# Altium schematic symbol library Altium Library Master.SchLib: 676 symbols (part 3 of 4)
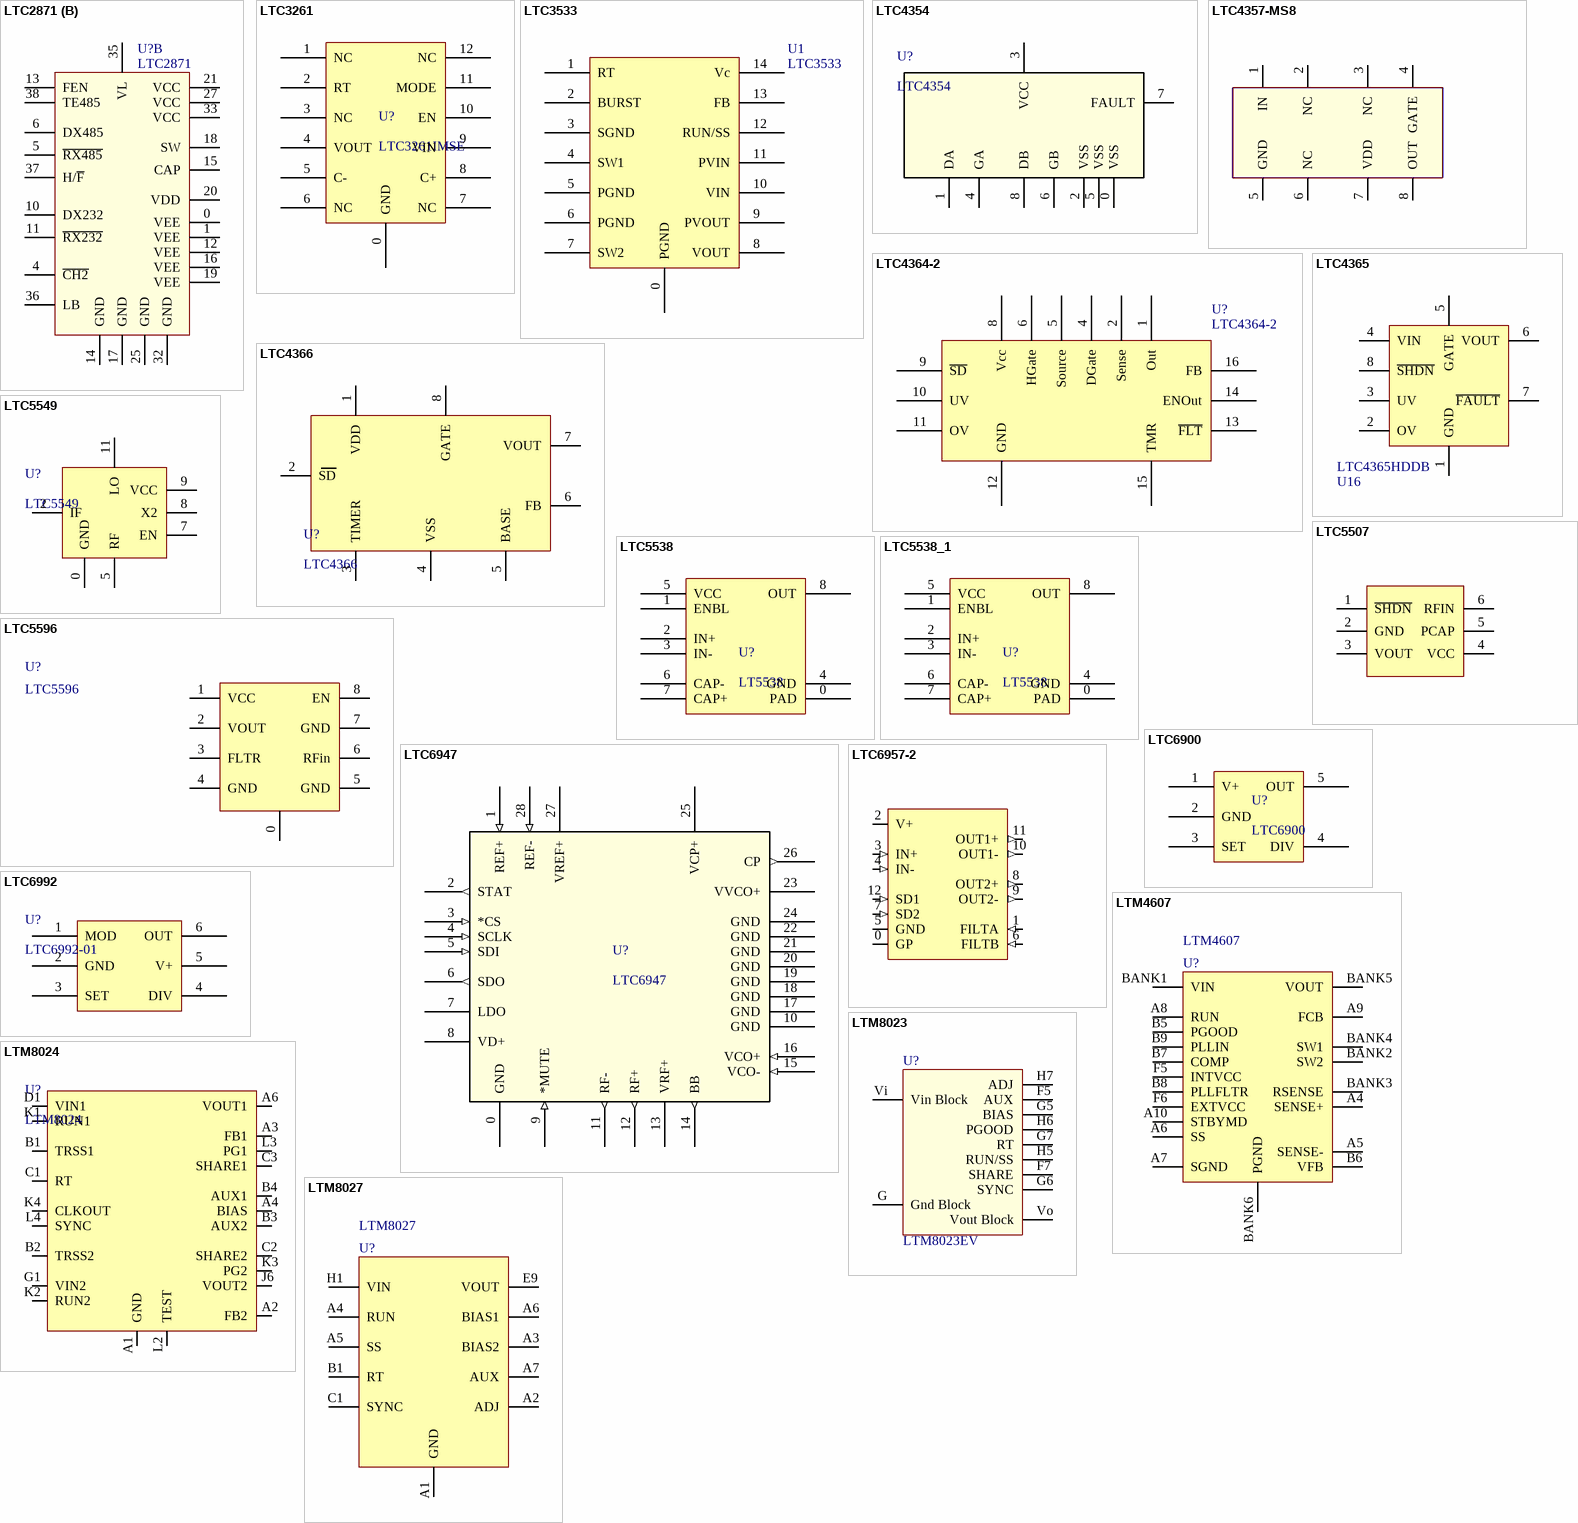
[diagram p33: symbols LTC2871 to LTM8027]

## LTM8024
designator U?
DC/DC Converter, Dual, 3-40V/0.8-8Vadj, 3.5A/ch, uModule, BGA
pins: A1 GND (power), A2 FB2 (power), A3 FB1 (power), A4 BIAS (power), A6 VOUT1 (power), B1 TRSS1 (power), B2 TRSS2 (power), B3 AUX2 (power), B4 AUX1 (power), C1 RT (power), C2 SHARE2 (power), C3 SHARE1 (power), D1 VIN1 (power), G1 VIN2 (power), J6 VOUT2 (power), K1 RUN1 (power), K2 RUN2 (power), K3 PG2 (power), K4 CLKOUT (power), L2 TEST (power), L3 PG1 (power), L4 SYNC (power)

## LTM8027
designator U?
60V, 4A Step-Down uModule Regulator
pins: A1 GND, A2 ADJ, A3 BIAS2, A4 RUN, A5 SS, A6 BIAS1, A7 AUX, B1 RT, C1 SYNC, E9 VOUT, H1 VIN

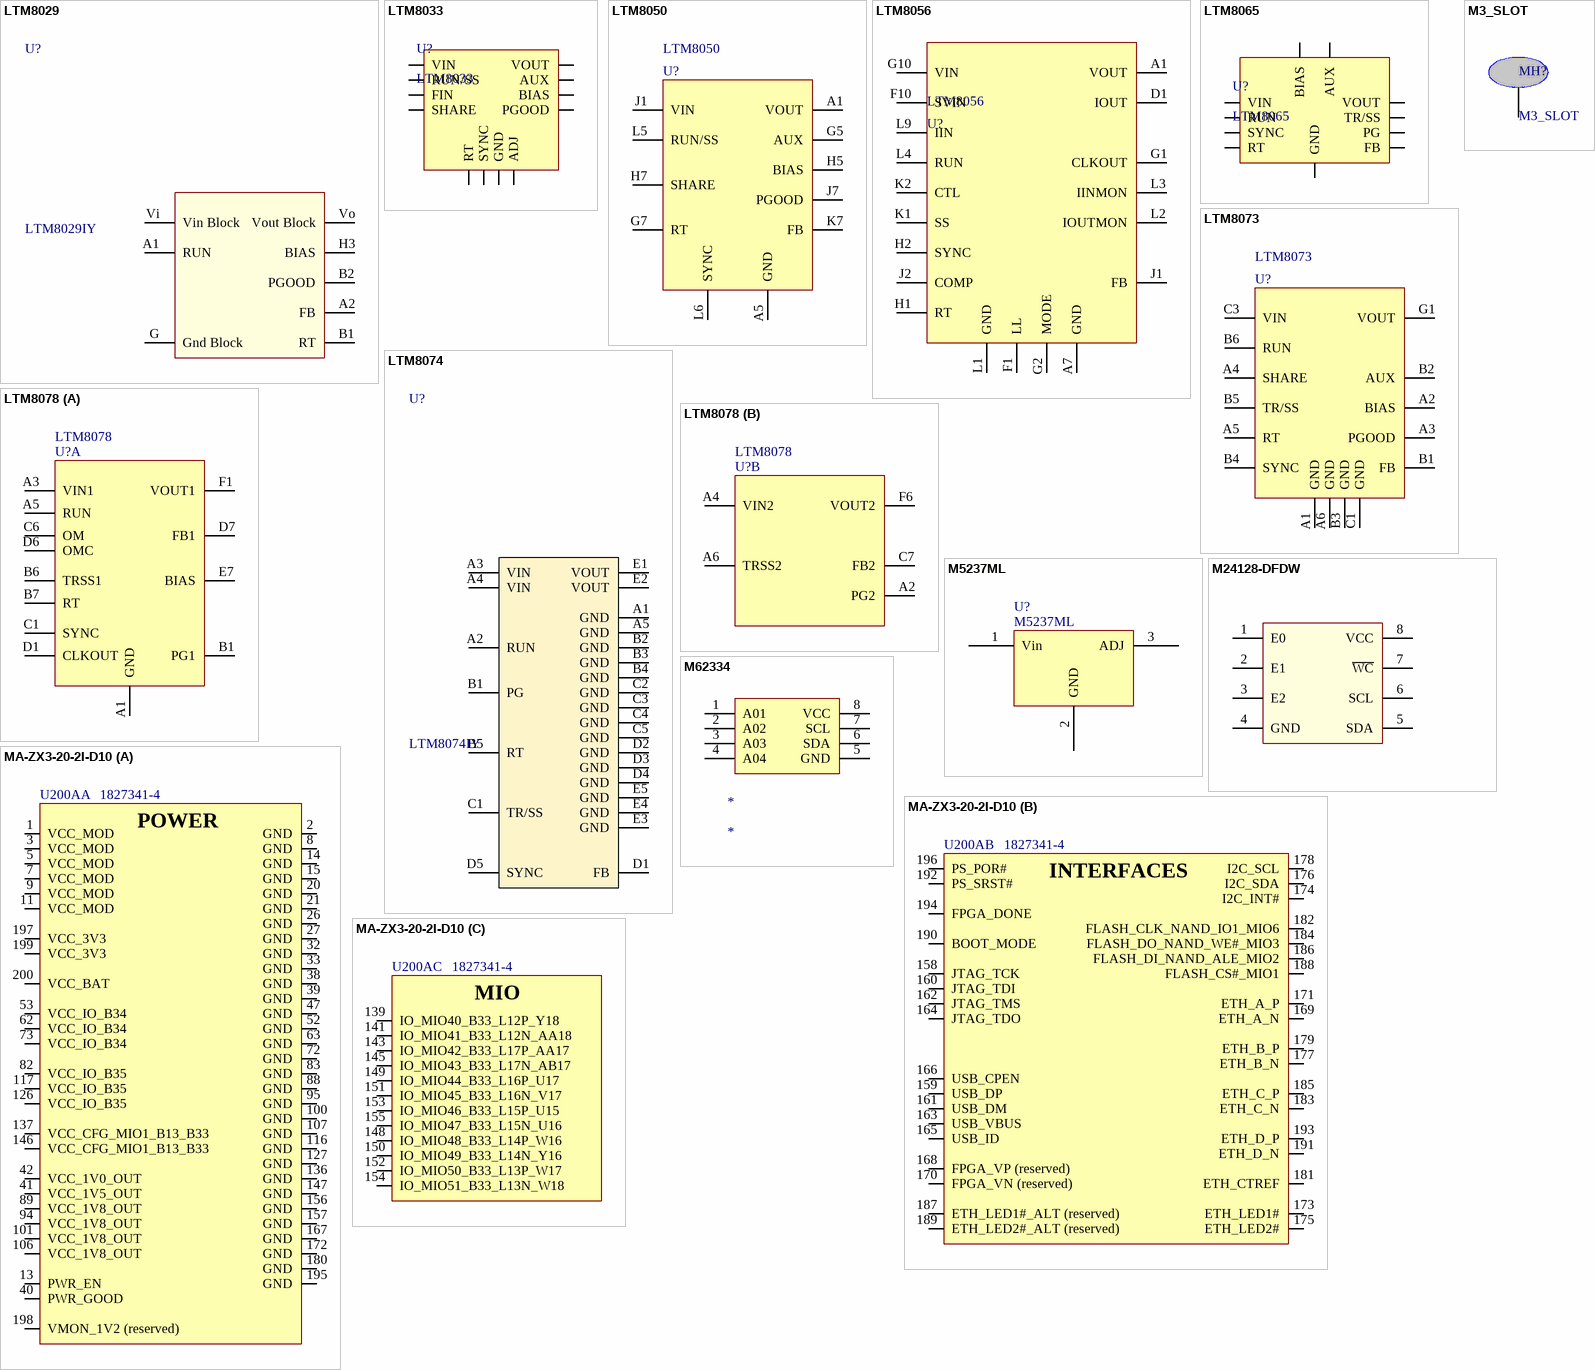
[diagram p18: symbols LTM8029 to MA-ZX3-20-2I-D10]

## LTM8029
designator U?, comment LTM8029IY
Switching Regulator
pins: A1 RUN, A2 FB, B1 RT, B2 PGOOD, G Gnd Block, H3 BIAS, Vi Vin Block, Vo Vout Block

## LTM8033
designator U?
Switching Regulator, Adj, 3A Buck, 36V input; Part Number: 52-8033-01
footprint BGA_LTM8033
pins: A1 VOUT (power), A2 VOUT (power), A3 VOUT (power), A4 GND (power), A5 GND (power), A6 SHARE, A7 ADJ, A8 GND (power), B1 VOUT (power), B2 VOUT (power), B3 VOUT (power), B5 GND (power), B6 RT, B7 PGOOD, B8 SYNC (power), C1 VOUT (power), C2 VOUT (power), C3 VOUT (power), C4 GND (power), C5 GND (power), C6 GND (power), C7 GND (power), C8 GND (power), D1 VOUT (power), D2 VOUT (power), D3 VOUT (power), D4 GND (power), D5 GND (power), D6 GND (power), D7 GND (power), D8 GND (power), E1 GND (power), E2 GND (power), E3 GND (power), E4 GND (power), E5 GND (power), E6 GND (power), E7 GND (power), E8 GND (power), F1 GND (power), F2 GND (power), F3 GND (power), F4 GND (power), F5 GND (power), F6 GND (power), F7 GND (power), F8 GND (power), G1 GND (power), G2 GND (power), G3 AUX, G4 BIAS, G5 GND (power), G6 GND (power), G7 GND (power), G8 RUN/SS, H5 GND (power), H6 GND (power), J1 VIN (power), J2 VIN (power), J3 VIN (power), J5 GND (power), J6 GND (power), J8 FIN (power), K1 VIN (power), K2 VIN (power), K3 VIN (power), K5 GND (power), K6 GND (power), K8 FIN (power), L1 VIN (power), L2 VIN (power), L3 VIN (power), L5 GND (power), L6 GND (power), L8 FIN (power)

## LTM8050
designator U?
58V, 2A Step-Down uModule Regulator
pins: A1 VOUT, A5 GND, G5 AUX, G7 RT, H5 BIAS, H7 SHARE, J1 VIN, J7 PGOOD, K7 FB, L5 RUN/SS, L6 SYNC

## LTM8056
designator U?
58V, 4A Buck-Boost uModule Regulator
pins: A1 VOUT, A7 GND, D1 IOUT, F1 LL "GND", F10 SVIN, G1 CLKOUT, G2 MODE "GND", G10 VIN, H1 RT, H2 SYNC, J1 FB, J2 COMP, K1 SS, K2 CTL, L1 GND, L2 IOUTMON, L3 IINMON, L4 RUN, L9 IIN

## LTM8065
designator U?
Switching Regulator, Adj, 2.5A Buck, 40V input; Part Number: 52-8033-01
footprint BGA_LTM8065
pins: A1 GND (power), A2 BIAS, A3 PG, A4 GND (power), A5 RT, A6 GND (power), B1 FB, B2 AUX, B3 GND (power), B4 SYNC, B5 TR/SS, B6 RUN, C1 GND (power), C2 GND (power), C3 VIN (power), C4 VIN (power), C5 VIN (power), C6 VIN (power), D1 GND (power), D2 GND (power), D3 GND (power), D4 GND (power), D5 GND (power), D6 GND (power), E1 GND (power), E2 GND (power), E3 GND (power), E4 GND (power), E5 GND (power), E6 GND (power), F1 VOUT (power), F2 VOUT (power), F3 VOUT (power), F4 VOUT (power), F5 VOUT (power), F6 VOUT (power)

## LTM8073
designator U?
58V, 3A Step-Down uModule Regulator
pins: A1 GND, A2 BIAS, A3 PGOOD, A4 SHARE, A5 RT, A6 GND, B1 FB, B2 AUX, B3 GND, B4 SYNC, B5 TR/SS, B6 RUN, C1 GND, C3 VIN, G1 VOUT

## LTM8074
designator U?, comment LTM8074IY
Step-down SMPS, Vin 3.2-40V, Vout 0.8-12V,; Part Number: 52-8074-01; MPN: LTM8074IY#PBF
pins: A1 GND, A2 RUN, A3 VIN (power), A4 VIN (power), A5 GND, B1 PG (oc), B2 GND, B3 GND, B4 GND, B5 RT, C1 TR/SS, C2 GND, C3 GND, C4 GND, C5 GND, D1 FB, D2 GND, D3 GND, D4 GND, D5 SYNC, E1 VOUT (power), E2 VOUT (power), E3 GND, E4 GND, E5 GND

## LTM8078
designator U?
DC/DC Converter, Dual, 3-40V/0.8-10V, 1.4A/Ch
part A pins: A1 GND, A3 VIN1, A5 RUN, A7 GND, B1 PG1, B2 GND, B3 GND, B4 GND, B5 GND, B6 TRSS1, B7 RT, C1 SYNC, C2 GND, C3 GND, C4 GND, C5 GND, C6 OM, D1 CLKOUT, D2 GND, D3 GND, D4 GND, D5 GND, D6 OMC, D7 FB1, E1 GND, E2 GND, E3 GND, E4 GND, E5 GND, E6 GND, E7 BIAS, F1 VOUT1, F2 VOUT1, F3 GND, F4 GND, F5 GND, G1 VOUT1, G2 VOUT1, G3 GND, G4 GND, G5 GND
part B pins: A2 PG2, A4 VIN2, A6 TRSS2, C7 FB2, F6 VOUT2, F7 VOUT2, G6 VOUT2, G7 VOUT2

## M3_SLOT
designator MH?
footprint M3_SLOT (M3 Mounting Screw Hole with Slot for Compression Stop)
pins: 1 (power)

## M5237ML
designator U?
Linear Regulator
pins: 1 Vin, 2 GND, 3 ADJ

## M24128-DFDW
designator U?
EEPROM, 128kx64, I2C, 1.7-5.5V, TSSOP-8; Part Number: 20-H10-04
footprint TSSOP-8
pins: 1 E0, 2 E1, 3 E2, 4 GND, 5 SDA, 6 SCL, 7 ~{WC}, 8 VCC

## M62334
designator *
pins: 1 A01, 2 A02, 3 A03, 4 A04, 5 GND (power), 6 SDA (power), 7 SCL (power), 8 VCC (power)

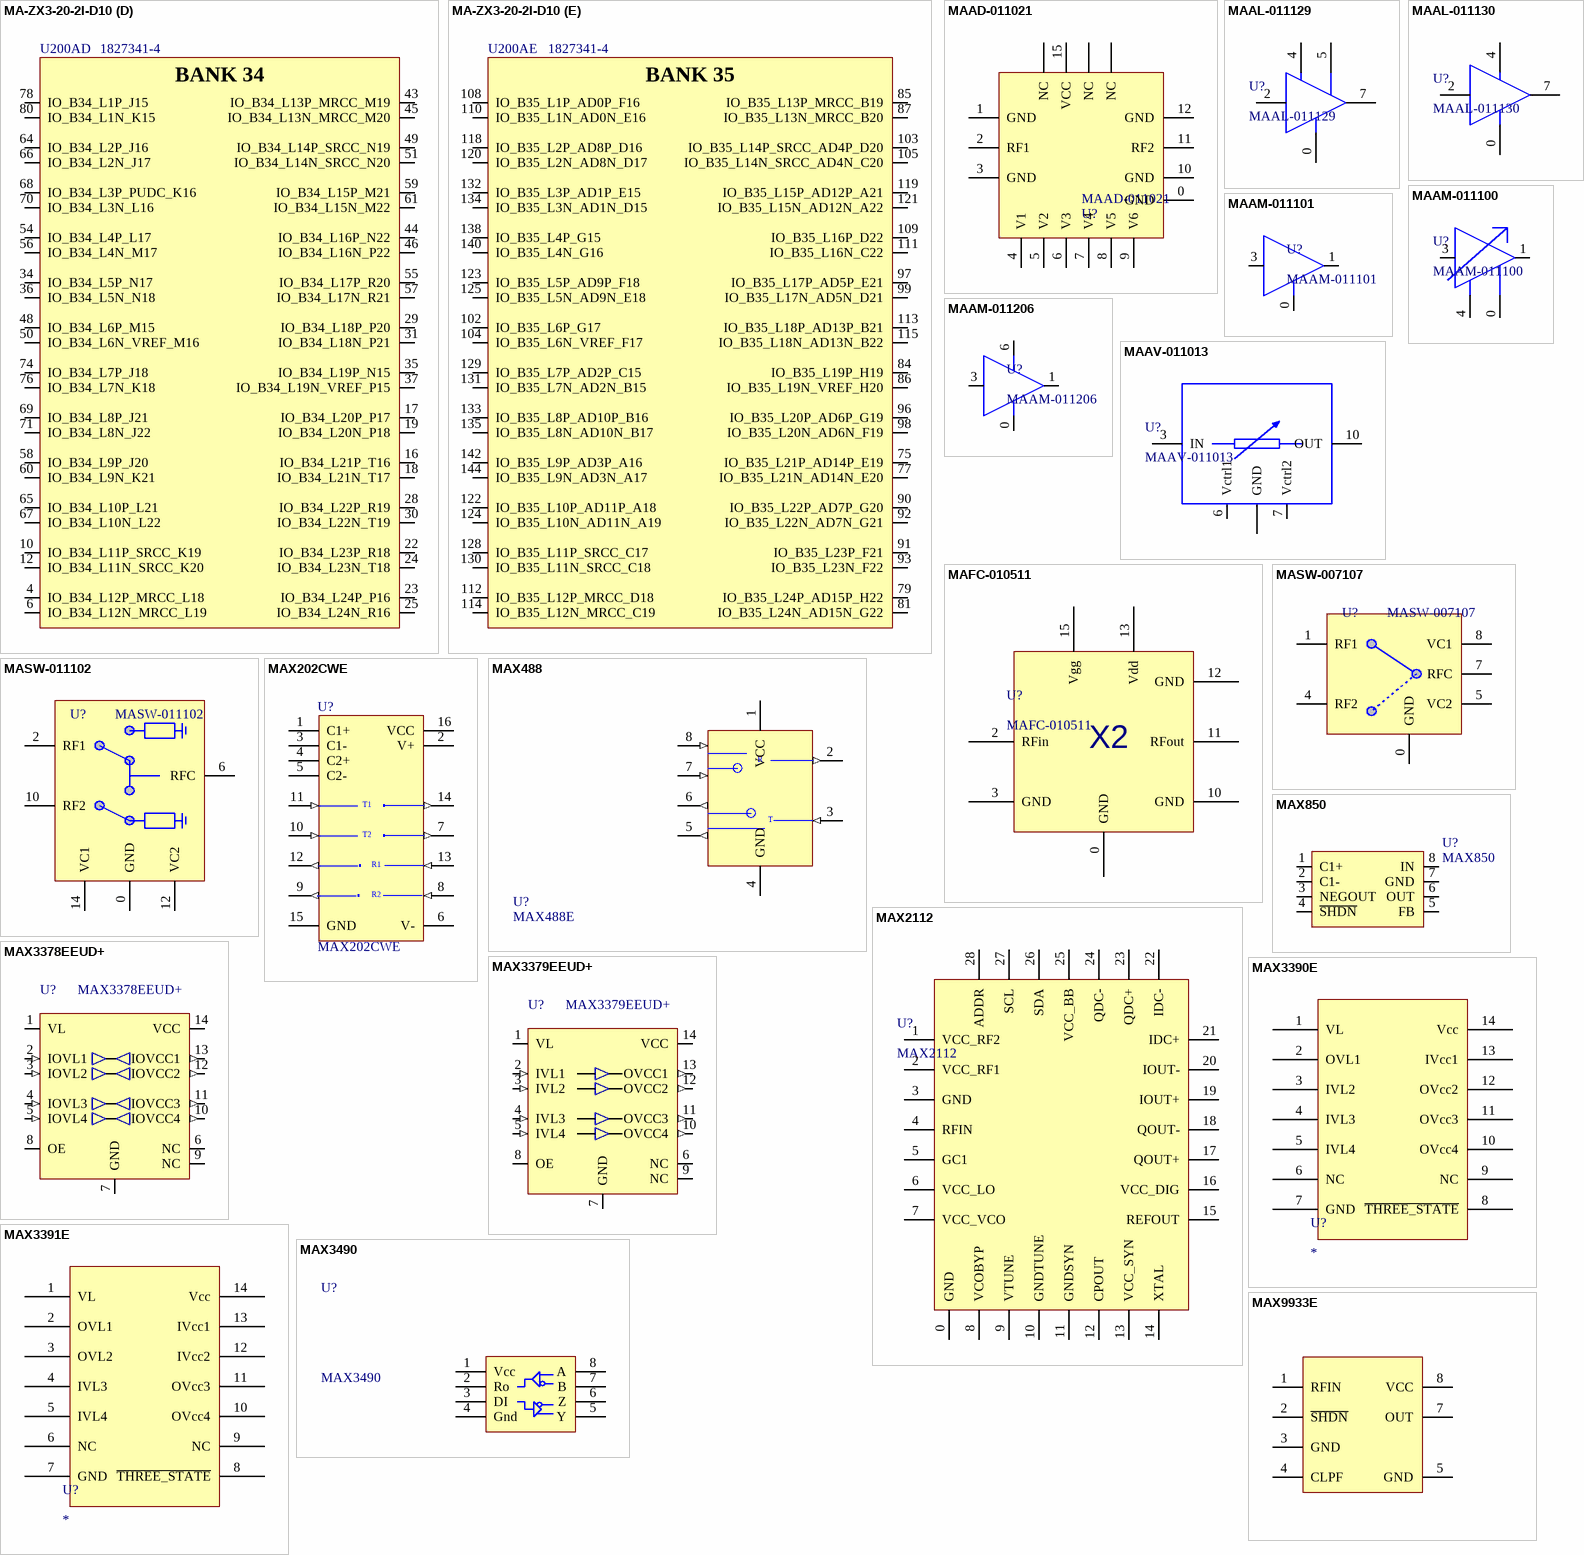
[diagram p19: symbols MA-ZX3-20-2I-D10 to MAX9933E]

## MA-ZX3-20-2I-D10
designator U200A, comment 1827341-4
Mars ZX3 Zynq-7020 Module; Part Number: 35-0206
footprint 1827341-4
part A pins: 1 VCC_MOD (power), 2 GND (power), 3 VCC_MOD (power), 5 VCC_MOD (power), 7 VCC_MOD (power), 8 GND (power), 9 VCC_MOD (power), 11 VCC_MOD (power), 13 PWR_EN, 14 GND (power), 15 GND (power), 20 GND (power), 21 GND (power), 26 GND (power), 27 GND (power), 32 GND (power), 33 GND (power), 38 GND (power), 39 GND (power), 40 PWR_GOOD, 41 VCC_1V5_OUT (power), 42 VCC_1V0_OUT (power), 47 GND (power), 52 GND (power), 53 VCC_IO_B34 (power), 62 VCC_IO_B34 (power), 63 GND (power), 72 GND (power), 73 VCC_IO_B34 (power), 82 VCC_IO_B35 (power), 83 GND (power), 88 GND (power), 89 VCC_1V8_OUT (power), 94 VCC_1V8_OUT (power), 95 GND (power), 100 GND (power), 101 VCC_1V8_OUT (power), 106 VCC_1V8_OUT (power), 107 GND (power), 116 GND (power), 117 VCC_IO_B35 (power), 126 VCC_IO_B35 (power), 127 GND (power), 136 GND (power), 137 VCC_CFG_MIO1_B13_B33 (power), 146 VCC_CFG_MIO1_B13_B33 (power), 147 GND (power), 156 GND (power), 157 GND (power), 167 GND (power), 172 GND (power), 180 GND (power), 195 GND (power), 197 VCC_3V3 (power), 198 VMON_1V2 (reserved), 199 VCC_3V3 (power), 200 VCC_BAT (power)
part B pins: 158 JTAG_TCK, 159 USB_DP, 160 JTAG_TDI, 161 USB_DM, 162 JTAG_TMS, 163 USB_VBUS, 164 JTAG_TDO, 165 USB_ID, 166 USB_CPEN, 168 FPGA_VP (reserved), 169 ETH_A_N, 170 FPGA_VN (reserved), 171 ETH_A_P, 173 ETH_LED1#, 174 I2C_INT#, 175 ETH_LED2#, 176 I2C_SDA, 177 ETH_B_N, 178 I2C_SCL, 179 ETH_B_P, 181 ETH_CTREF, 182 FLASH_CLK_NAND_IO1_MIO6, 183 ETH_C_N, 184 FLASH_DO_NAND_WE#_MIO3, 185 ETH_C_P, 186 FLASH_DI_NAND_ALE_MIO2, 187 ETH_LED1#_ALT (reserved), 188 FLASH_CS#_MIO1, 189 ETH_LED2#_ALT (reserved), 190 BOOT_MODE, 191 ETH_D_N, 192 PS_SRST#, 193 ETH_D_P, 194 FPGA_DONE, 196 PS_POR#
part C pins: 139 IO_MIO40_B33_L12P_Y18, 141 IO_MIO41_B33_L12N_AA18, 143 IO_MIO42_B33_L17P_AA17, 145 IO_MIO43_B33_L17N_AB17, 148 IO_MIO48_B33_L14P_W16, 149 IO_MIO44_B33_L16P_U17, 150 IO_MIO49_B33_L14N_Y16, 151 IO_MIO45_B33_L16N_V17, 152 IO_MIO50_B33_L13P_W17, 153 IO_MIO46_B33_L15P_U15, 154 IO_MIO51_B33_L13N_W18, 155 IO_MIO47_B33_L15N_U16
part D pins: 4 IO_B34_L12P_MRCC_L18, 6 IO_B34_L12N_MRCC_L19, 10 IO_B34_L11P_SRCC_K19, 12 IO_B34_L11N_SRCC_K20, 16 IO_B34_L21P_T16, 17 IO_B34_L20P_P17, 18 IO_B34_L21N_T17, 19 IO_B34_L20N_P18, 22 IO_B34_L23P_R18, 23 IO_B34_L24P_P16, 24 IO_B34_L23N_T18, 25 IO_B34_L24N_R16, 28 IO_B34_L22P_R19, 29 IO_B34_L18P_P20, 30 IO_B34_L22N_T19, 31 IO_B34_L18N_P21, 34 IO_B34_L5P_N17, 35 IO_B34_L19P_N15, 36 IO_B34_L5N_N18, 37 IO_B34_L19N_VREF_P15, 43 IO_B34_L13P_MRCC_M19, 44 IO_B34_L16P_N22, 45 IO_B34_L13N_MRCC_M20, 46 IO_B34_L16N_P22, 48 IO_B34_L6P_M15, 49 IO_B34_L14P_SRCC_N19, 50 IO_B34_L6N_VREF_M16, 51 IO_B34_L14N_SRCC_N20, 54 IO_B34_L4P_L17, 55 IO_B34_L17P_R20, 56 IO_B34_L4N_M17, 57 IO_B34_L17N_R21, 58 IO_B34_L9P_J20, 59 IO_B34_L15P_M21, 60 IO_B34_L9N_K21, 61 IO_B34_L15N_M22, 64 IO_B34_L2P_J16, 65 IO_B34_L10P_L21, 66 IO_B34_L2N_J17, 67 IO_B34_L10N_L22, 68 IO_B34_L3P_PUDC_K16, 69 IO_B34_L8P_J21, 70 IO_B34_L3N_L16, 71 IO_B34_L8N_J22, 74 IO_B34_L7P_J18, 76 IO_B34_L7N_K18, 78 IO_B34_L1P_J15, 80 IO_B34_L1N_K15
part E pins: 75 IO_B35_L21P_AD14P_E19, 77 IO_B35_L21N_AD14N_E20, 79 IO_B35_L24P_AD15P_H22, 81 IO_B35_L24N_AD15N_G22, 84 IO_B35_L19P_H19, 85 IO_B35_L13P_MRCC_B19, 86 IO_B35_L19N_VREF_H20, 87 IO_B35_L13N_MRCC_B20, 90 IO_B35_L22P_AD7P_G20, 91 IO_B35_L23P_F21, 92 IO_B35_L22N_AD7N_G21, 93 IO_B35_L23N_F22, 96 IO_B35_L20P_AD6P_G19, 97 IO_B35_L17P_AD5P_E21, 98 IO_B35_L20N_AD6N_F19, 99 IO_B35_L17N_AD5N_D21, 102 IO_B35_L6P_G17, 103 IO_B35_L14P_SRCC_AD4P_D20, 104 IO_B35_L6N_VREF_F17, 105 IO_B35_L14N_SRCC_AD4N_C20, 108 IO_B35_L1P_AD0P_F16, 109 IO_B35_L16P_D22, 110 IO_B35_L1N_AD0N_E16, 111 IO_B35_L16N_C22, 112 IO_B35_L12P_MRCC_D18, 113 IO_B35_L18P_AD13P_B21, 114 IO_B35_L12N_MRCC_C19, 115 IO_B35_L18N_AD13N_B22, 118 IO_B35_L2P_AD8P_D16, 119 IO_B35_L15P_AD12P_A21, 120 IO_B35_L2N_AD8N_D17, 121 IO_B35_L15N_AD12N_A22, 122 IO_B35_L10P_AD11P_A18, 123 IO_B35_L5P_AD9P_F18, 124 IO_B35_L10N_AD11N_A19, 125 IO_B35_L5N_AD9N_E18, 128 IO_B35_L11P_SRCC_C17, 129 IO_B35_L7P_AD2P_C15, 130 IO_B35_L11N_SRCC_C18, 131 IO_B35_L7N_AD2N_B15, 132 IO_B35_L3P_AD1P_E15, 133 IO_B35_L8P_AD10P_B16, 134 IO_B35_L3N_AD1N_D15, 135 IO_B35_L8N_AD10N_B17, 138 IO_B35_L4P_G15, 140 IO_B35_L4N_G16, 142 IO_B35_L9P_AD3P_A16, 144 IO_B35_L9N_AD3N_A17
part A text: POWER
part B text: INTERFACES
part C text: MIO
part D text: BANK 34
part E text: BANK 35

## MAAD-011021
designator U?
0.5 dB LSB GaAs MMIC 6-BIT DIGITAL, DC - 30 GHz
pins: 0 GND, 1 GND "VDD", 2 RF1, 3 GND, 4 V1, 5 V2, 6 V3, 7 V4, 8 V5, 9 V6, 10 GND, 11 RF2, 12 GND, 13 NC, 14 NC, 15 VCC, 16 NC

## MAAL-011129
designator U?
MMIC, LNA 18-31.5 GHz
pins: 0 GND (power), 1 GND (power) hidden to GND, 2 RFin, 3 GND (power) hidden to GND, 4 Bias (power), 5 VDD (power), 6 GND (power) hidden to GND, 7 RFout, 8 GND (power) hidden to GND

## MAAL-011130
designator U?
MMIC, LNA 2-18GHz
pins: 0 GND (power), 1 GND (power) hidden to GND, 2 RFin, 3 GND (power) hidden to GND, 4 Bias (power), 5 GND hidden to GND, 6 GND (power) hidden to GND, 7 RFout, 8 GND (power) hidden to GND

## MAAM-011100
designator U?
0.4-20GHz VGAmplifier
pins: 0 GND, 1 RFout, 2 NC hidden to GND, 3 RFin, 4 Vc, 5 NC hidden to GND, 6 NC hidden to GND

## MAAM-011101
designator U?
4-20GHz Amplifier
pins: 0 GND, 1 RFout, 2 NC hidden to GND, 3 RFin, 4 NC hidden to GND, 5 NC hidden to GND, 6 NC hidden to GND

## MAAM-011206
designator U?
DC-15GHz Amplifier
pins: 0 GND, 1 RFout, 2 NC hidden to GND, 3 RFin, 4 NC hidden to GND, 5 NC hidden to GND, 6 VB

## MAAV-011013
designator U?
VARIABLE VOLTAGE ATTENUATOR 5-45 GHz
pins: 0 GND, 1 NC hidden to GND, 2 GND hidden to GND, 3 IN, 4 GND hidden to GND, 5 NC hidden to GND, 6 Vctrl1, 7 Vctrl2, 8 NC hidden to GND, 9 GND hidden to GND, 10 OUT, 11 GND hidden to GND, 12 NC hidden to GND, 13 NC hidden to GND, 14 NC hidden to GND, 15 NC hidden to GND, 16 NC hidden to GND

## MAFC-010511
designator U?
Frequency Doubler, 16 - 24 GHz Output
pins: 0 GND, 1 NC hidden to GND, 2 RFin, 3 GND, 4 NC hidden to GND, 5 NC hidden to GND, 6 NC hidden to GND, 7 NC hidden to GND, 8 NC hidden to GND, 9 NC hidden to GND, 10 GND, 11 RFout, 12 GND, 13 Vdd, 14 NC hidden to GND, 15 Vgg, 16 NC hidden to GND
text: X2

## MASW-007107
designator U?
RF Switch, SPDT, DC - 8.0 GHz
footprint PDFN-8LD_2x2
footprint PDFN-8LD
pins: 0 GND, 1 RF1, 2 NC hidden to GND, 3 NC hidden to GND, 4 RF2, 5 VC2, 6 NC hidden to GND, 7 RFC, 8 VC1

## MASW-011102
designator U?
RF Switch, SPDT, DC - 30 GHz
pins: 0 GND, 1 GND, 2 RF1, 3 GND, 4 GND, 5 GND, 6 RFC, 7 GND, 8 GND, 9 GND, 10 RF2, 11 GND, 12 VC2, 13 GND, 14 VC1

## MAX202CWE
designator U?
+5V RS-232 Transceiver with 0.1µF External Capacitor; Published: 16-Jan-2001; LatestRevisionDate: 13-Apr-2006; LatestRevisionNote: IPC-7351 Footprint Added.; DatasheetVersion: Dec-1996; PackageReference: WSO16; Publisher: Altium Limited; PackageDescription: 16-Pin Small Outline Integrated Circuit 1.27 mm Pitch; Code_JEDEC: MS-013-AA; Code_IPC: SOIC127P1030-16; ComponentLink1Description: Manufacturer Link; ComponentLink1URL: http://www.maxim-ic.com/; ComponentLink2Description: Datasheet; ComponentLink2URL: http://pdfserv.maxim-ic.com/en/ds/MAX200-MAX213.pdf
pins: 1 C1+, 2 V+ (power), 3 C1-, 4 C2+, 5 C2-, 6 V- (power), 7 T2OUT (out), 8 R2IN (in), 9 R2OUT (out), 10 T2IN (in), 11 T1IN (in), 12 R1OUT (out), 13 R1IN (in), 14 T1OUT (out), 15 GND (power), 16 VCC (power)
text: T1; T2; R1; R2

## MAX488
designator U?, comment MAX488E
RS485/RS422 Transceiver
pins: 1 VCC (power), 2 RO (out), 3 DI (in), 4 GND (power), 5 Y (out), 6 Z (out), 7 B (in), 8 A (in)
text: R; T

## MAX850
designator U?
Low-Noise, Regulated, Negative  Charge-Pump Power Supplies for GaAsFET Bias
pins: 1 C1+, 2 C1-, 3 NEGOUT, 4 ~{SHDN}, 5 FB, 6 OUT, 7 GND, 8 IN

## MAX2112
designator U?
Tuner, 925-2175MHz, Dir Conv, DVB-S2, -40/+85C, TQFN28
pins: 0 GND, 1 VCC_RF2, 2 VCC_RF1, 3 GND, 4 RFIN, 5 GC1, 6 VCC_LO, 7 VCC_VCO, 8 VCOBYP, 9 VTUNE, 10 GNDTUNE, 11 GNDSYN, 12 CPOUT, 13 VCC_SYN, 14 XTAL, 15 REFOUT, 16 VCC_DIG, 17 QOUT+, 18 QOUT-, 19 IOUT+, 20 IOUT-, 21 IDC+, 22 IDC-, 23 QDC+, 24 QDC-, 25 VCC_BB, 26 SDA, 27 SCL, 28 ADDR

## MAX3378EEUD+
designator U?
Level Translator/Buffer, Bidirectional, Quad Tx, -40/+85C, TSSOP-14
pins: 1 VL (power), 2 IOVL1 (in), 3 IOVL2 (in), 4 IOVL3 (in), 5 IOVL4 (in), 6 NC, 7 GND (power), 8 OE, 9 NC, 10 IOVCC4 (out), 11 IOVCC3 (out), 12 IOVCC2 (out), 13 IOVCC1 (out), 14 VCC (power)

## MAX3379EEUD+
designator U?
4-bit Voltage Translator (VL to VH)
pins: 1 VL (power), 2 IVL1 (in), 3 IVL2 (in), 4 IVL3 (in), 5 IVL4 (in), 6 NC, 7 GND (power), 8 OE, 9 NC, 10 OVCC4 (out), 11 OVCC3 (out), 12 OVCC2 (out), 13 OVCC1 (out), 14 VCC (power)

## MAX3390E
designator U?
Level Translator/Buffer, Single Rx Dual Tx, -40/+85C, TSSOP-14
pins: 1 VL, 2 OVL1, 3 IVL2, 4 IVL3, 5 IVL4, 6 NC, 7 GND, 8 ~{THREE_STATE}, 9 NC, 10 OVcc4, 11 OVcc3, 12 OVcc2, 13 IVcc1, 14 Vcc

## MAX3391E
designator U?
Level Translator/Buffer, Low Phase Noise, Dual, DFN
pins: 1 VL, 2 OVL1, 3 OVL2, 4 IVL3, 5 IVL4, 6 NC, 7 GND, 8 ~{THREE_STATE}, 9 NC, 10 OVcc4, 11 OVcc3, 12 IVcc2, 13 IVcc1, 14 Vcc

## MAX3490
designator U?
RS422/485 Transceiver 3V3 SO8; Value: MAX3490
pins: 1 Vcc, 2 Ro, 3 DI, 4 Gnd, 5 Y, 6 Z, 7 B, 8 A

## MAX9933E
designator U?
RF Detector, 2MHz-1.6GHz, -45dBm to +0dBm
pins: 1 RFIN, 2 ~{SHDN}, 3 GND, 4 CLPF, 5 GND, 7 OUT, 8 VCC

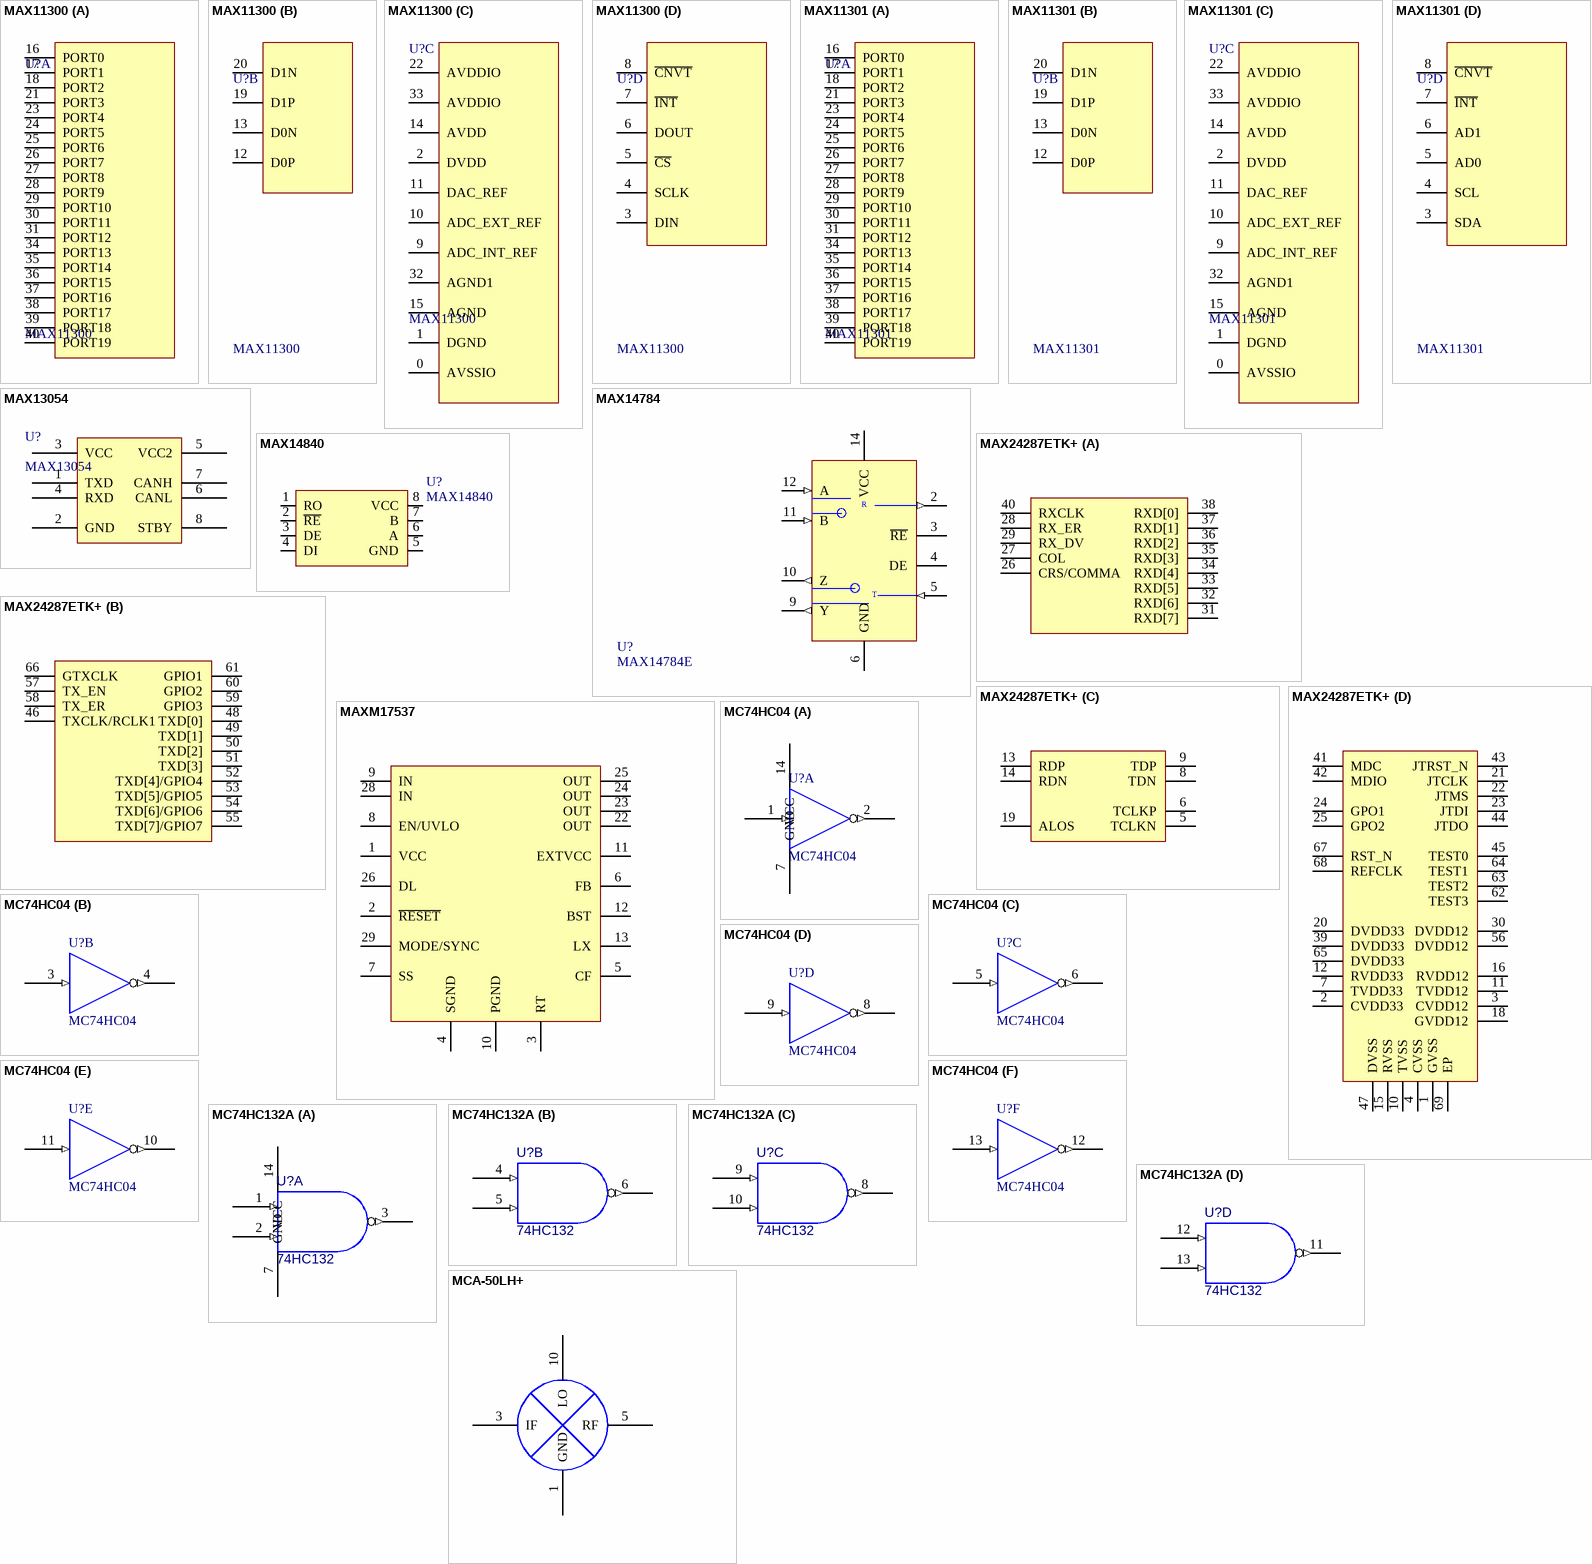
[diagram p20: symbols MAX11300 to MCA-50LH+]

## MAX11300
designator U?
20 PORT A/D, D/A, GPIO, SPI
part A pins: 16 PORT0 "GPIO", 17 PORT1 "GPIO", 18 PORT2 "GPIO", 21 PORT3 "GPIO", 23 PORT4 "GPIO", 24 PORT5 "GPIO", 25 PORT6 "GPIO", 26 PORT7 "GPIO", 27 PORT8 "GPIO", 28 PORT9 "GPIO", 29 PORT10 "GPIO", 30 PORT11 "GPIO", 31 PORT12 "GPIO", 34 PORT13 "GPIO", 35 PORT14 "GPIO", 36 PORT15 "GPIO", 37 PORT16 "GPIO", 38 PORT17 "GPIO", 39 PORT18 "GPIO", 40 PORT19 "GPIO"
part B pins: 12 D0P, 13 D0N, 19 D1P, 20 D1N
part C pins: 0 AVSSIO, 1 DGND, 2 DVDD, 9 ADC_INT_REF, 10 ADC_EXT_REF, 11 DAC_REF, 14 AVDD, 15 AGND, 22 AVDDIO, 32 AGND1, 33 AVDDIO
part D pins: 3 DIN, 4 SCLK, 5 ~{CS}, 6 DOUT, 7 ~{INT}, 8 ~{CNVT}

## MAX11301
designator U?
20 PORT A/D, D/A, GPIO, I2C
part A pins: 16 PORT0 "GPIO", 17 PORT1 "GPIO", 18 PORT2 "GPIO", 21 PORT3 "GPIO", 23 PORT4 "GPIO", 24 PORT5 "GPIO", 25 PORT6 "GPIO", 26 PORT7 "GPIO", 27 PORT8 "GPIO", 28 PORT9 "GPIO", 29 PORT10 "GPIO", 30 PORT11 "GPIO", 31 PORT12 "GPIO", 34 PORT13 "GPIO", 35 PORT14 "GPIO", 36 PORT15 "GPIO", 37 PORT16 "GPIO", 38 PORT17 "GPIO", 39 PORT18 "GPIO", 40 PORT19 "GPIO"
part B pins: 12 D0P, 13 D0N, 19 D1P, 20 D1N
part C pins: 0 AVSSIO, 1 DGND, 2 DVDD, 9 ADC_INT_REF, 10 ADC_EXT_REF, 11 DAC_REF, 14 AVDD, 15 AGND, 22 AVDDIO, 32 AGND1, 33 AVDDIO
part D pins: 3 SDA, 4 SCL, 5 AD0, 6 AD1, 7 ~{INT}, 8 ~{CNVT}

## MAX13054
designator U?
Transceiver, CAN Bus, Protected, SOIC-8, -40/+85degC
pins: 1 TXD, 2 GND, 3 VCC, 4 RXD, 5 VCC2, 6 CANL, 7 CANH, 8 STBY

## MAX14784
designator U?, comment MAX14784E
RS485/RS422 Transceiver, SOIC-14
pins: 2 RO (out), 3 ~{RE}, 4 DE, 5 DI (in), 6 GND (power), 7 GND (power) hidden to GND, 9 Y (out), 10 Z (out), 11 B (in), 12 A (in), 14 VCC (power)
text: R; T

## MAX14840
designator U?
Low-Noise, Regulated, Negative  Charge-Pump Power Supplies for GaAsFET Bias
pins: 1 RO, 2 ~{RE}, 3 DE, 4 DI, 5 GND, 6 A, 7 B, 8 VCC

## MAX24287ETK+
designator U?
part A pins: 17 NC hidden, 26 CRS/COMMA, 27 COL, 28 RX_ER, 29 RX_DV, 31 RXD[7], 32 RXD[6], 33 RXD[5], 34 RXD[4], 35 RXD[3], 36 RXD[2], 37 RXD[1], 38 RXD[0], 40 RXCLK
part B pins: 46 TXCLK/RCLK1, 48 TXD[0], 49 TXD[1], 50 TXD[2], 51 TXD[3], 52 TXD[4]/GPIO4, 53 TXD[5]/GPIO5, 54 TXD[6]/GPIO6, 55 TXD[7]/GPIO7, 57 TX_EN, 58 TX_ER, 59 GPIO3, 60 GPIO2, 61 GPIO1, 66 GTXCLK
part C pins: 5 TCLKN, 6 TCLKP, 8 TDN, 9 TDP, 13 RDP, 14 RDN, 19 ALOS
part D pins: 1 GVSS, 2 CVDD33, 3 CVDD12, 4 CVSS, 7 TVDD33, 10 TVSS, 11 TVDD12, 12 RVDD33, 15 RVSS, 16 RVDD12, 18 GVDD12, 20 DVDD33, 21 JTCLK, 22 JTMS, 23 JTDI, 24 GPO1, 25 GPO2, 30 DVDD12, 39 DVDD33, 41 MDC, 42 MDIO, 43 JTRST_N, 44 JTDO, 45 TEST0, 47 DVSS, 56 DVDD12, 62 TEST3, 63 TEST2, 64 TEST1, 65 DVDD33, 67 RST_N, 68 REFCLK, 69 EP

## MAXM17537
designator U?
Part Number: 20-H10-04
pins: 0 PGND, 1 VCC, 2 ~{RESET}, 3 RT, 4 SGND, 5 CF, 6 FB, 7 SS, 8 EN/UVLO, 9 IN, 10 PGND "GND", 11 EXTVCC, 12 BST, 13 LX, 14 PGND, 15 PGND, 16 PGND, 17 PGND, 18 PGND, 19 PGND, 20 PGND, 21 PGND, 22 OUT, 23 OUT, 24 OUT, 25 OUT, 26 DL, 27 PGND, 28 IN, 29 MODE/SYNC

## MC74HC04
designator U?
Hex Inverters
part A pins: 1 (in), 2 (out), 7 GND (power), 14 VCC (power)
part B pins: 3 (in), 4 (out)
part C pins: 5 (in), 6 (out)
part D pins: 8 (out), 9 (in)
part E pins: 10 (out), 11 (in)
part F pins: 12 (out), 13 (in)
2 alternate drawings of the same symbol

## MC74HC132A
designator U?, comment 74HC132
QUAD 2-IN POS NAND SCH
part A pins: 1 (in), 2 (in), 3 (out), 7 GND (power), 14 VCC (power)
part B pins: 4 (in), 5 (in), 6 (out)
part C pins: 8 (out), 9 (in), 10 (in)
part D pins: 11 (out), 12 (in), 13 (in)
2 alternate drawings of the same symbol

## MCA-50LH+
designator U?
Part Number: 20-H10-04
footprint DZ883
pins: 1 GND, 2 GND hidden to GND, 3 IF, 4 GND hidden to GND, 5 RF, 6 GND hidden to GND, 7 GND hidden to GND, 8 GND hidden to GND, 9 GND hidden to GND, 10 LO

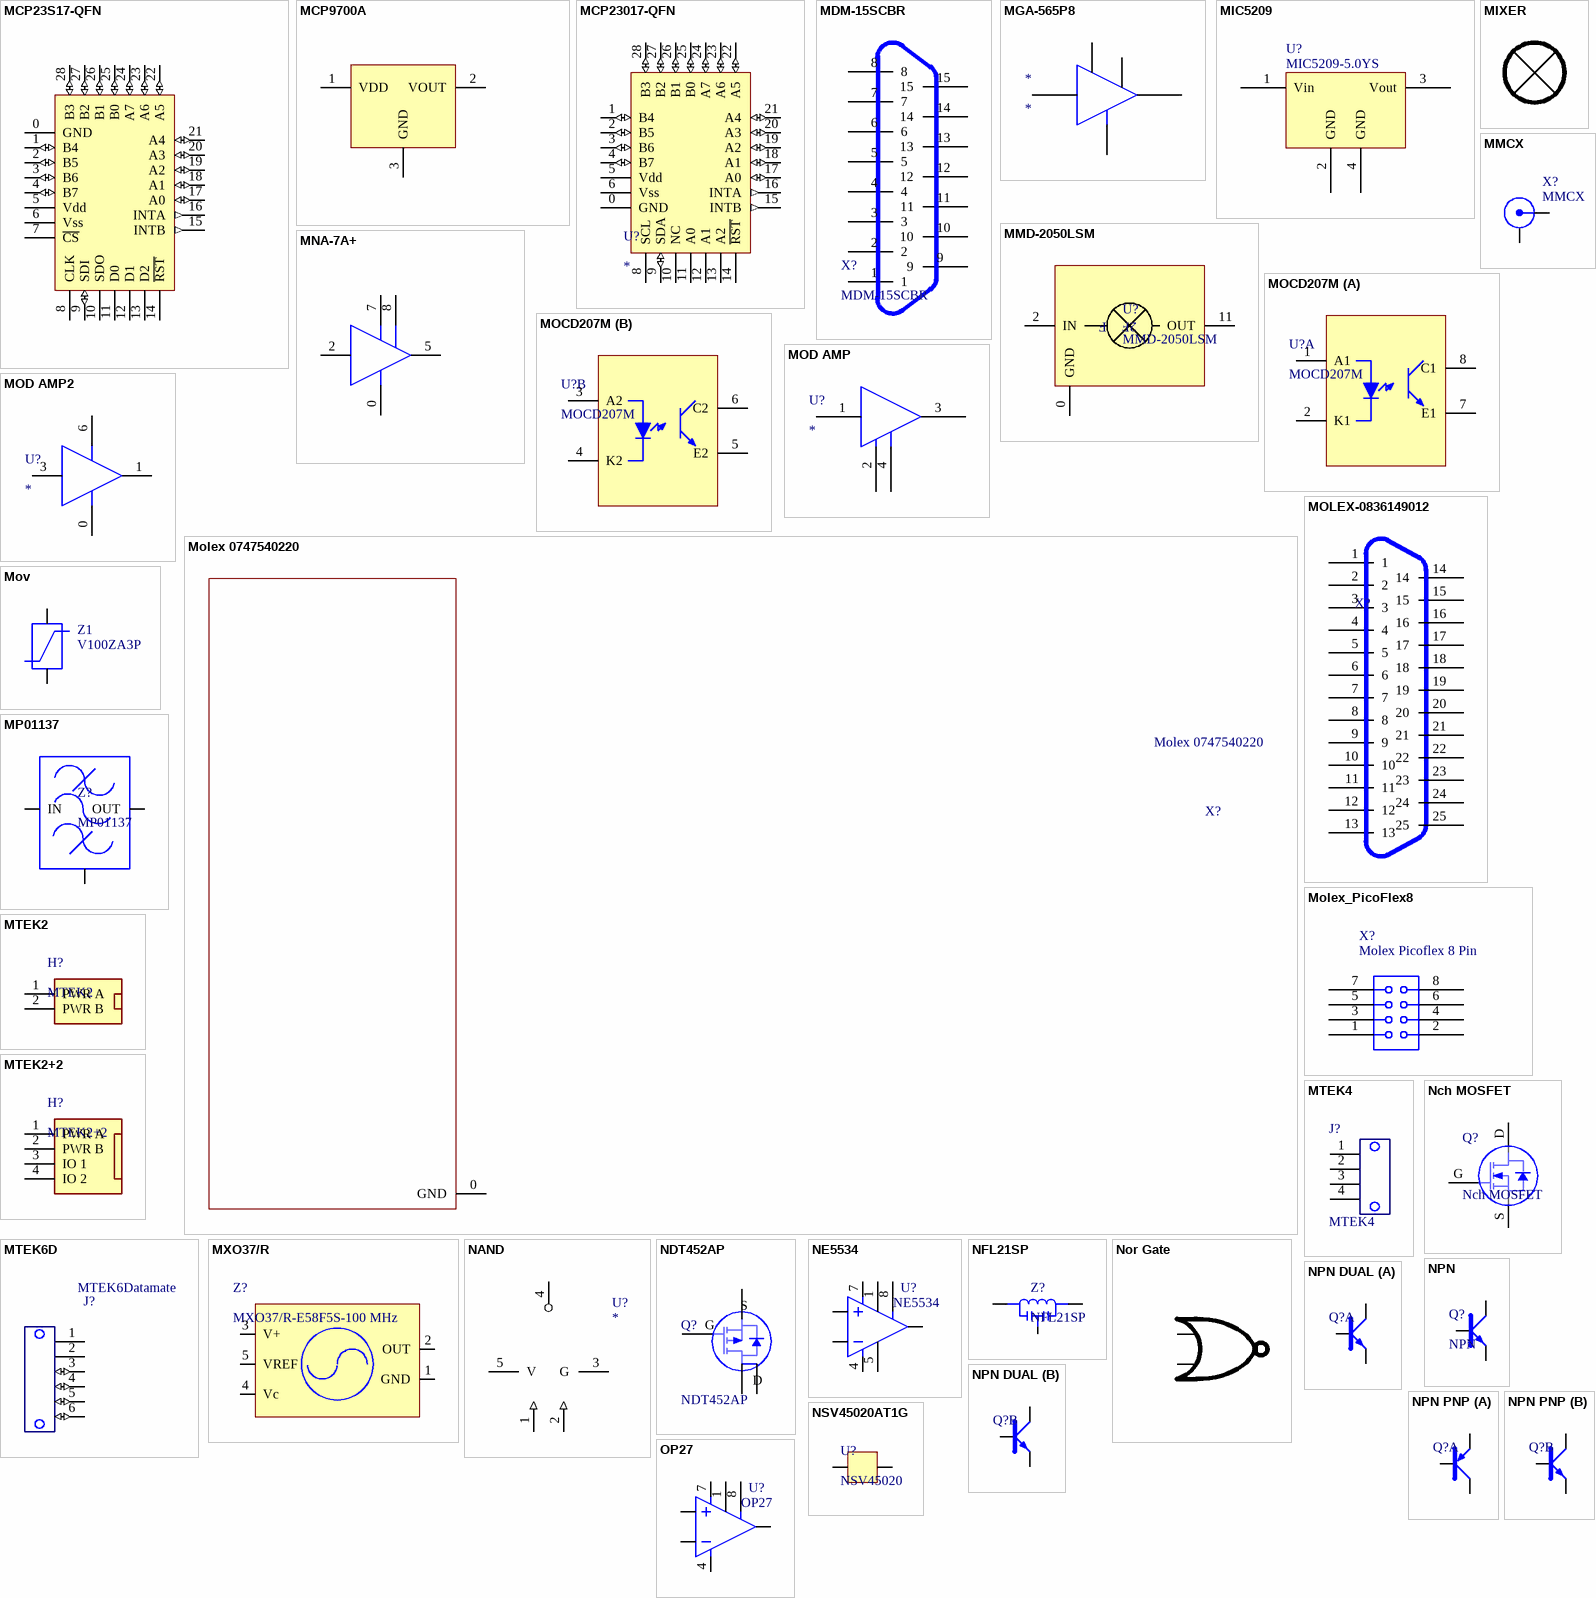
[diagram p21: symbols MCP23S17-QFN to OP27]

## MCP23S17-QFN
designator U?
Port Extender, 16bit, IIC, -40/+125C, QFN28; Part Number: 20-H10-04
footprint QFN-28 6x6mm
pins: 0 GND, 1 B4 (io), 2 B5 (io), 3 B6 (io), 4 B7 (io), 5 Vdd (power), 6 Vss (power), 7 ~{CS}, 8 CLK, 9 SDI (io), 10 SDO, 11 D0, 12 D1, 13 D2, 14 ~{RST}, 15 INTB (out), 16 INTA (out), 17 A0 (io), 18 A1 (io), 19 A2 (io), 20 A3 (io), 21 A4 (io), 22 A5 (io), 23 A6 (io), 24 A7 (io), 25 B0 (io), 26 B1 (io), 27 B2 (io), 28 B3 (io)

## MCP9700A
designator U?
Temp Sensor, 10mV/K, SOt-23 -40/+125degC
pins: 1 VDD, 2 VOUT, 3 GND

## MCP23017-QFN
designator U?
Port Extender, 16bit, IIC, -40/+85C, QFN28
pins: 0 GND, 1 B4 (io), 2 B5 (io), 3 B6 (io), 4 B7 (io), 5 Vdd (power), 6 Vss (power), 7 NC hidden, 8 SCL, 9 SDA (io), 10 NC, 11 A0, 12 A1, 13 A2, 14 ~{RST}, 15 INTB (out), 16 INTA (out), 17 A0 (io), 18 A1 (io), 19 A2 (io), 20 A3 (io), 21 A4 (io), 22 A5 (io), 23 A6 (io), 24 A7 (io), 25 B0 (io), 26 B1 (io), 27 B2 (io), 28 B3 (io)

## MDM-15SCBR
designator X?
15pin Micro-D Connector
pins: 1, 2, 3, 4, 5, 6, 7, 8, 9, 10, 11, 12, 13, 14, 15

## MGA-565P8
designator *
pins: G GND (power), RFIN RFin, RFOUT RFout, VD2 (power), VD3 (power)

## MIC5209
designator U?, comment MIC5209-5.0YS
Voltage Regulator, 5V, 2A, LDO
pins: 1 Vin, 2 GND, 3 Vout, 4 GND

## MIXER
designator U?  (value not drawn)

## MMCX
designator X?
Top Mount MMCX connector
pins: 0, 1

## MMD-2050LSM
designator U?
Marki MMD-2050LSM, Doubler, 10-25GHz input; Part Number: 58-MMD2050-01
pins: 0 GND, 1 GND, 2 IN, 3 GND, 4 GND, 5 GND, 6 GND, 7 GND, 8 GND, 9 GND, 10 GND, 11 OUT, 12 GND, 13 GND, 14 GND, 15 GND, 16 GND
text: F; 2F

## MNA-7A+
designator U?
MMIC, 1.5-5.9GHz, G=17dB, P=15 NF=6.9dB @2GHz, 3x3 SMD; Part Number: 20-H10-04
footprint DQ849
pins: 0 (power), 1 NC (power) hidden, 2, 3 GND (power) hidden to GND, 4 GND (power) hidden to GND, 5, 6 NC (power) hidden, 7 Bias (power), 8 Bias (power)

## MOCD207M
designator U?
Optocoupler, dual
part A pins: 1 A1, 2 K1, 7 E1, 8 C1
part B pins: 3 A2, 4 K2, 5 E2, 6 C2

## MOD AMP
designator U?
Monolithic Amplifier
pins: 1, 2 (power), 3, 4 (power)

## MOD AMP2
designator U?
Monolithic Amplifier with bias
pins: 0 (power), 1, 2 (power) hidden to GND, 3, 4 (power) hidden to GND, 5 (power) hidden to GND, 6 Bias (power)

## Molex 0747540220
designator X?
pins: 0 GND

## MOLEX-0836149012
designator X?, comment 0836149012  (value not drawn)
Socket, Micro D25, R/A PCB; Part Number: 21-D15-04; MANUFACTURER: ITT CANON; ID: 1983; MODELNAME: MDM-15SCBR-A174-F222; ItemID: 21-D15-04
pins: 1, 2, 3, 4, 5, 6, 7, 8, 9, 10, 11, 12, 13, 14, 15, 16, 17, 18, 19, 20, 21, 22, 23, 24, 25

## Molex_PicoFlex8
designator X?, comment Molex Picoflex 8 Pin
pins: 1, 2, 3, 4, 5, 6, 7, 8

## Mov
designator Z1, comment V100ZA3P
MOV
pins: 1, 2

## MP01137
designator Z?
Filter, SAW, 2250MHz, BW=100MHz
pins: 1 GND, 2 IN, 3 GND hidden to GND, 4 GND hidden to GND, 5 OUT, 6 GND hidden to GND

## MTEK2
designator H?
Header, MIX-TEK, 2-pin, 2x20A
pins: 1 PWR A, 2 PWR B

## MTEK2+2
designator H?
Header, MIX-TEK, 4-pin, 2x3A 2x20A
pins: 1 PWR A, 2 PWR B, 3 IO 1, 4 IO 2

## MTEK4
designator J?
PCB Header, 4Pin, 20A, 4mm MIX-TEK, Vert PCB, Gold; Value: MTEK4
pins: 1, 2, 3, 4

## MTEK6D
designator J?, comment MTEK6Datamate
Vertical Datamate MTEK connector; Value: MTEK6Datamate
pins: 1 (power), 2 (power), 3 (io), 4 (io), 5 (io), 6 (io)

## MXO37/R
designator Z?, comment MXO37/R-E58F5S-100 MHz
100.0MHz TCXO
pins: 1 GND, 2 OUT, 3 V+, 4 Vc, 5 VREF

## NAND
designator U?
NAND Gate; Value: *
pins: 1 (in), 2 (in), 3 G (power), 4 (oc), 5 V (power)

## Nch MOSFET
designator Q?
Nch MOSFET, 0.2A, 60V
pins: D, G, S

## NDT452AP
designator Q?
pins: 1 G, 2 D, 3 S, 4 D

## NE5534
designator U?
Operational Amplifier
pins: 1 BAL, 2 -IN, 3 +IN, 4 V-, 5 COMP, 6 Out, 7 V+, 8 COMP/BAL

## NFL21SP
designator Z?
Feedthru, 2C+L,
pins: 1, 2 (power), 3

## Nor Gate
designator Z?  (value not drawn)  (graphical)

## NPN
designator Q?
NPN Bipolar Junction Transistor
pins: B, C, E

## NPN DUAL
designator Q?
Dual NPN BJT
part A pins: B1, C1, E1
part B pins: B2, C2, E2

## NPN PNP
designator Q?
NPN PNP BJT Pair
part A pins: B1, C1, E1
part B pins: B2, C2, E2

## NSV45020AT1G
designator U?, comment NSV45020
Current Regulator, 20mA, LDO, AEC-Q101, SOD123; Part Number: 52-45020-01
footprint SOD123_NSV45020
pins: A, K

## OP27
designator U?
3nV/Hz Noise, Low Power, Precision  Operational Amplifier
pins: 1 VOS TRIM, 2 -IN, 3 +IN, 4 V-, 6 Out, 7 V+, 8 VOS TRIM

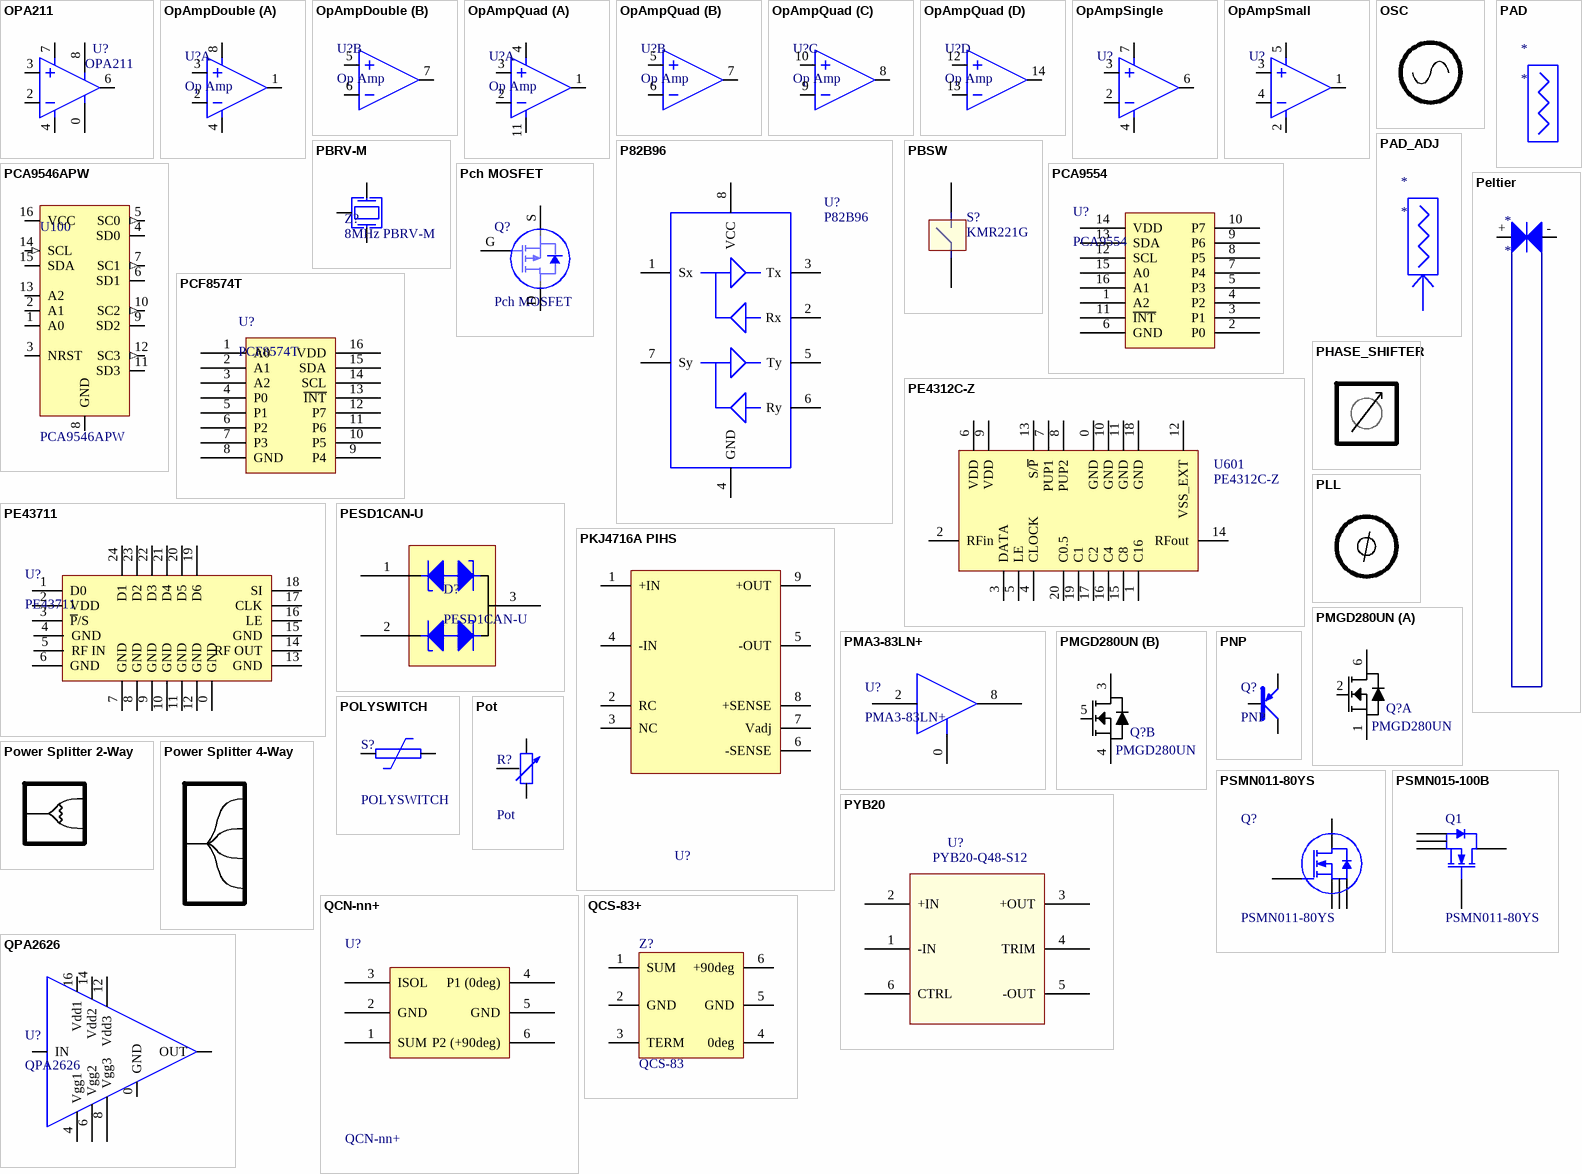
[diagram p22: symbols OPA211 to QPA2626]

## OPA211
designator U?
1.1nV/ÖHz Noise, Low Power, Precision  Operational Amplifier
pins: 0 GND, 1 N/C hidden to GND, 2 -IN, 3 +IN, 4 V-, 5 N/C hidden to GND, 6 Out, 7 V+, 8 SHUTDOWN

## OpAmpDouble
designator U?, comment Op Amp
part A pins: 1 Vo1, 2 IN1-, 3 IN1+, 4 V-, 8 V+
part B pins: 5 IN2+, 6 IN2-, 7 Vo2

## OpAmpQuad
designator U?, comment Op Amp
Quad Op Amp
part A pins: 1, 2, 3, 4, 11
part B pins: 5, 6, 7
part C pins: 8, 9, 10
part D pins: 12, 13, 14

## OpAmpSingle
designator U?
Low noise rail-rail op-amp
pins: 2 IN-, 3 IN+, 4 V-, 6 Out, 7 V+

## OpAmpSmall
designator U?
Low noise rail-rail op-amp
pins: 1 Out, 2 V-, 3 IN+, 4 IN-, 5 V+

## OSC
designator U?

## P82B96
designator U?
Dual Bidirectional Bus Buffer
pins: 1 Sx, 2 Rx, 3 Tx, 4 GND, 5 Ty, 6 Ry, 7 Sy, 8 VCC

## PAD
designator *  (graphical)

## PAD_ADJ
designator *  (graphical)

## PBRV-M
designator Z?, comment 8MHz PBRV-M
pins: 1, 2, 3

## PBSW
designator S?, comment KMR221G
Push Button Switch; Value: KMR221G
footprint KMR2 (tactile switch button)
pins: 1, 2

## PCA9546APW
designator U100
Low Voltage 4-Channel I2C Switch with Reset (TSSOP); Part Number: 53-9546-01
footprint PCA9546APW (4-channel I2C-bus switch with reset)
pins: 1 A0, 2 A1, 3 NRST, 4 SD0 (io), 5 SC0 (out), 6 SD1 (io), 7 SC1 (out), 8 GND (power), 9 SD2 (io), 10 SC2 (out), 11 SD3 (io), 12 SC3 (out), 13 A2, 14 SCL (in), 15 SDA (io), 16 VCC (power)

## PCA9554
designator U?
Port Expander, 8-bit II2
pins: 1 A2, 2 P0, 3 P1 (power), 4 P2 (power), 5 P3, 6 GND (power), 7 P4 (power), 8 P5, 9 P6 (power), 10 P7 (power), 11 ~{INT}, 12 SCL, 13 SDA (power), 14 VDD, 15 A0, 16 A1 (power)

## PCF8574T
designator U?
Remote 8-bit I/O expander for I2C-bus
pins: 1 A0, 2 A1 (power), 3 A2, 4 P0, 5 P1 (power), 6 P2 (power), 7 P3, 8 GND (power), 9 P4 (power), 10 P5, 11 P6 (power), 12 P7 (power), 13 ~{INT}, 14 SCL, 15 SDA (power), 16 VDD

## Pch MOSFET
designator Q?
MOSFET, Pch
pins: D, G, S

## PE4312C-Z
designator U601
6-bit digital step attenuator, 31.5dB, 1MHz-4GHz, serial/parallel interface; Part Number: 58-PE4312-01
pins: 0 GND, 1 C16, 2 RFin, 3 DATA, 4 CLOCK, 5 LE, 6 VDD, 7 PUP1, 8 PUP2, 9 VDD, 10 GND, 11 GND, 12 VSS_EXT, 13 S/~{P}, 14 RFout, 15 C8, 16 C4, 17 C2, 18 GND, 19 C1, 20 C0.5

## PE43711
designator U?
7 Bit Digital Attenuator, 1-6GHz
pins: 0 GND, 1 D0, 2 VDD, 3 ~{P}/S, 4 GND, 5 RF IN, 6 GND, 7 GND, 8 GND, 9 GND, 10 GND, 11 GND, 12 GND, 13 GND, 14 RF OUT, 15 GND, 16 LE, 17 CLK, 18 SI, 19 D6, 20 D5, 21 D4, 22 D3, 23 D2, 24 D1

## Peltier
designator *
pins: +, -

## PESD1CAN-U
designator D?
Diode, ESD Protection, CAN Bus
pins: 1, 2, 3

## PHASE_SHIFTER
designator U?

## PKJ4716A PIHS
designator U?
pins: 1 +IN, 2 RC, 3 NC, 4 -IN, 5 -OUT, 6 -SENSE, 7 Vadj, 8 +SENSE, 9 +OUT

## PLL
designator U?

## PMA3-83LN+
designator U?
Monolithic Amplifier
pins: 0 GND (power), 1 GND (power) hidden to GND, 2 RF-IN, 3 GND (power) hidden to GND, 4 GND (power) hidden to GND, 5 GND (power) hidden to GND, 6 GND (power) hidden to GND, 7 GND (power) hidden to GND, 8 RF-OUT, 9 GND (power) hidden to GND, 10 GND (power) hidden to GND, 11 GND (power) hidden to GND, 12 GND (power) hidden to GND

## PMGD280UN
designator Q?
Dual N-channel uTrenchMOS ultra low level FET; Manufacturer: NXP; MaxVoltage: 20; MaxCurrent: 0.870; RoHS: true; TempMin: -40; TempMax: 85; DigiKeyCode: 568-2365-1-ND; DigiKeyPrice: 0.52; FarnellMOQ: 1; DigiKeyMOQ: 1; Price: 0.2808; PriceComment: DigiKey 100 unit price; Supplier: DigiKey; PartNumber: PMGD280UN
footprint FET_PMGD280UN_SOT363 (SOT363, 6-Leads, Body 2.2x2.2mm (max), Pitch 0.65mm, IPC Medium Density)
footprint PMGD280UN
part A pins: 1 S1, 2 G1, 6 D1
part B pins: 3 D2, 4 S2, 5 G2

## PNP
designator Q?
PNP Bipolar Junction Transistor
pins: B, C, E

## POLYSWITCH
designator S?
pins: 1, 2

## Pot
designator R?
Variable Resistor
pins: 1, 2, 3

## Power Splitter 2-Way
designator Z?  (value not drawn)

## Power Splitter 4-Way
designator Z?  (value not drawn)

## PSMN011-80YS
designator Q?
N-channel MOSFET
pins: 1 S, 2 S, 3 S, 4 G, 5 D

## PSMN015-100B
designator Q1, comment PSMN011-80YS
N-channel MOSFET; Note: Pin 2 is trimmed (and not drawn) and is electrically connected to Drain; Published: 17-Sep-2003; DatasheetVersion: Aug-1999; PackageVersion: rev1.0, Aug-1999; PackageReference: SOT404; Publisher: Altium Limited; PackageDescription: D2-PAK/TO-263-AB; 3 Leads (1 Cropped); Body 15.4 (inc. leads) x 10.3 mm (LxW max); ComponentLink1Description: Manufacturer Link; ComponentLink1URL: http://www.semiconductors.philips.com/; ComponentLink2Description: Datasheet; ComponentLink2URL: http://www.semiconductors.philips.com/acrobat/datasheets/PSMN015_100P_100B-05.pdf
pins: 1 S, 2 S, 3 S, 4 G, 5 D

## PYB20
designator U?, comment PYB20-Q48-S12
DC-DC Converter Module
pins: 1 -IN, 2 +IN, 3 +OUT, 4 TRIM, 5 -OUT, 6 CTRL

## QCN-nn+
designator U?
pins: 1 SUM, 2 GND, 3 ISOL, 4 P1 (0deg), 5 GND, 6 P2 (+90deg)

## QCS-83+
designator Z?, comment QCS-83
Power Splitter/Combiner
pins: 1 SUM, 2 GND, 3 TERM, 4 0deg, 5 GND, 6 +90deg

## QPA2626
designator U?
GaAs MMIC LOW NOISE  AMPLIFIER, 17 - 22 GHz
pins: 0 GND, 1 GND, 2 IN, 3 GND, 4 Vgg1, 5 GND, 6 Vgg2, 7 GND, 8 Vgg3, 9 GND, 10 OUT, 11 GND, 12 Vdd3, 13 GND, 14 Vdd2, 15 GND, 16 Vdd1

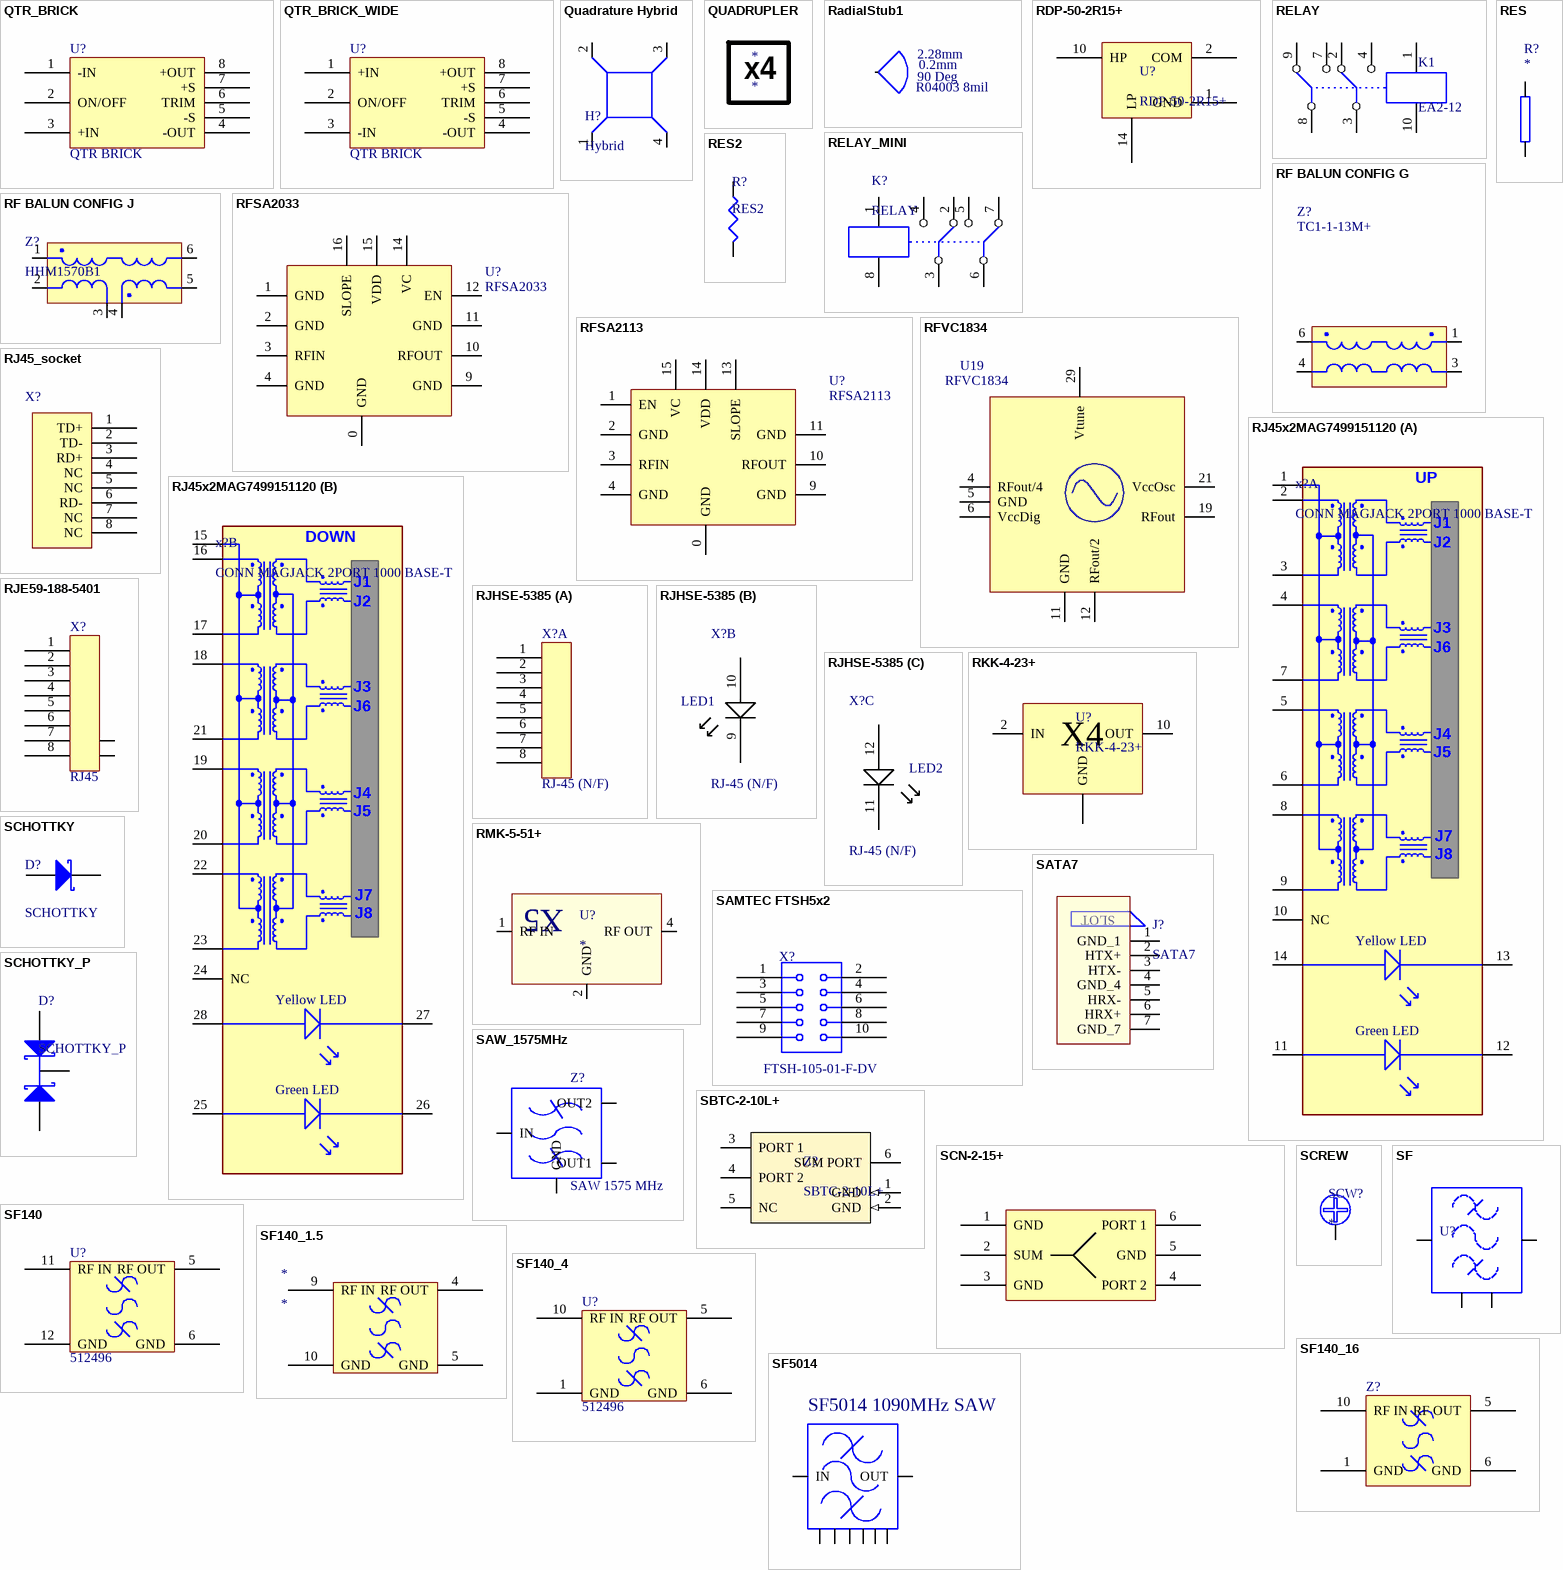
[diagram p23: symbols QTR_BRICK to SF5014]

## QTR_BRICK
designator U?, comment QTR BRICK
pins: 1 -IN, 2 ON/OFF, 3 +IN, 4 -OUT, 5 -S, 6 TRIM, 7 +S, 8 +OUT

## QTR_BRICK_WIDE
designator U?, comment QTR BRICK
pins: 1 +IN, 2 ON/OFF, 3 -IN, 4 -OUT, 5 -S, 6 TRIM, 7 +S, 8 +OUT

## Quadrature Hybrid
designator H?, comment Hybrid  (no BOM)
Quadrature Hybrid; W35: 0.71mm; L35: 2.8mm; W50: 0.42mm; L50: 3.1mm
pins: 1, 2, 3, 4

## QUADRUPLER
designator *
text: x4

## RadialStub1
designator S?, comment Substrate: R04003 8mil  W: 0.2mm  R: 2.28mm  Phi: 90 Deg  (hidden comment: RADIALSTUB)  (no BOM)
footprint Ku Band Radial Stub (R4003 20mil, Ku Band)
pins: 1

## RDP-50-2R15+
designator U?
Diplexer, DC-50, 950-2150 MHz
footprint CK605
pins: 1 GND, 2 COM, 3 GND hidden to GND, 4 GND hidden to GND, 5 GND hidden to GND, 6 GND hidden to GND, 7 GND hidden to GND, 8 GND hidden to GND, 9 GND hidden to GND, 10 HP, 11 GND hidden to GND, 12 GND hidden to GND, 13 GND hidden to GND, 14 LP, 15 GND hidden to GND, 16 GND hidden to GND

## RELAY
designator K1, comment EA2-12
pins: 1 +, 2 NC, 3 C1, 4 NO1, 7 NO2, 8 C2, 9 NC2, 10 -

## RELAY_MINI
designator K?, comment RELAY
pins: 1 +, 2 NC, 3 C1, 4 NO1, 5 NO2, 6 C2, 7 NC2, 8 -

## RES
designator R?
Resistor
pins: 1, 2

## RES2
designator R?
Resistor
pins: 1, 2

## RF BALUN CONFIG G
designator Z?, comment TC1-1-13M+
RF BALUN MINI-CCTS CONFIG G
pins: 1, 2 hidden, 3, 4, 6

## RF BALUN CONFIG J
designator Z?, comment HHM1570B1
Balanced to unbalanced chip
pins: 1, 2 GND, 3, 4, 5, 6

## RFSA2033
designator U?
Voltage Variable Attenuator, 0.05 - 6 GHz
pins: 0 GND, 1 GND, 2 GND, 3 RFIN, 4 GND, 5 GND hidden to GND, 6 GND hidden to GND, 7 GND hidden to GND, 8 GND hidden to GND, 9 GND, 10 RFOUT, 11 GND, 12 EN, 13 NC hidden, 14 VC, 15 VDD, 16 SLOPE

## RFSA2113
designator U?
Voltage Variable Attenuator, 0.05 - 18 GHz
pins: 0 GND, 1 EN "GND", 2 GND, 3 RFIN, 4 GND, 5 GND hidden to GND, 6 GND hidden to GND, 7 GND hidden to GND, 8 GND hidden to GND, 9 GND, 10 RFOUT, 11 GND, 12 GND hidden to GND, 13 SLOPE, 14 VDD, 15 VC, 16 GND hidden to GND

## RFVC1834
designator U19
9.0GHz to 10.2GHz MMIC VCO with  Fo/2 and Fo/4 Outputs
pins: 0 GND hidden to GND, 1 N/C hidden to GND, 2 N/C hidden to GND, 3 N/C hidden to GND, 4 RFout/4, 5 GND, 6 VccDig, 7 N/C hidden to GND, 8 N/C hidden to GND, 9 N/C hidden to GND, 10 N/C hidden to GND, 11 GND, 12 RFout/2, 13 N.C hidden to GND, 14 N/C hidden to GND, 15 N/F hidden to GND, 16 N/C hidden to GND, 17 N/C hidden to GND, 18 N/C hidden to GND, 19 RFout, 20 N/C hidden to GND, 21 VccOsc, 22 N/C hidden to GND, 23 N/C hidden to GND, 24 N/C hidden to GND, 25 N/C hidden to GND, 26 N/C hidden to GND, 27 N/C hidden to GND, 28 N/C hidden to GND, 29 Vtune, 30 N/C hidden to GND, 31 N/C hidden to GND, 32 N/C hidden to GND

## RJ45_socket
designator X?, comment RJ45 Ethernet Socket  (value not drawn)
pins: 1 TD+, 2 TD-, 3 RD+, 4 NC, 5 NC, 6 RD-, 7 NC, 8 NC

## RJ45x2MAG7499151120
designator x?, comment CONN MAGJACK 2PORT 1000 BASE-T
footprint 7499151120
part A pins: 1, 2, 3, 4, 5, 6, 7, 8, 9, 10 NC, 11, 12, 13, 14
part B pins: 15, 16, 17, 18, 19, 20, 21, 22, 23, 24 NC, 25, 26, 27, 28
part A text: UP; J1; J2; J3; J6; J4; J5; J7; J8; Yellow LED; Green LED
part B text: DOWN; J1; J2; J3; J6; J4; J5; J7; J8; Yellow LED; Green LED

## RJE59-188-5401
designator X?, comment RJ45
Socket, RJ45, 8Way, 8Contct, w/LEDs, R/A PCB, Shield; Part Number: 21-A8-09
footprint RJE59-188-5401
pins: 1, 2, 3, 4, 5, 6, 7, 8, S1 G, S2 G

## RJHSE-5385
designator X?, comment RJ-45 (N/F)
footprint RJHSE-5385
part A pins: 0 Chassis hidden to CHASSIS_GND, 1, 2, 3, 4, 5, 6, 7, 8
part B pins: 9, 10
part C pins: 11, 12
part B text: LED1
part C text: LED2

## RKK-4-23+
designator U?
4x Multiplier
pins: 1 GND, 2 IN, 3 GND hidden to GND, 4 GND hidden to GND, 5 GND hidden to GND, 6 GND hidden to GND, 7 GND hidden to GND, 8 GND hidden to GND, 9 GND hidden to GND, 10 OUT, 11 GND hidden to GND, 12 GND hidden to GND, 13 GND hidden to GND, 14 GND hidden to GND, 15 GND hidden to GND, 16 GND hidden to GND "External Termination Pin"
text: X4

## RMK-5-51+
designator U?
X5 Frequency Multiplier. <23dB Conversion Loss. 50dB rejection of F4 and F6. Internally balanced to 50 Ohm. No DC power required. TT1224 Package.
pins: 1 RF IN, 2 GND, 3 GND, 4 RF OUT, 5 GND, 6 GND
text: X5

## SAMTEC FTSH5x2
designator X?, comment FTSH-105-01-F-DV
pins: 1, 2, 3, 4, 5, 6, 7, 8, 9, 10

## SATA7
designator J?
SATA 7 position connector
pins: 1 GND_1, 2 HTX+, 3 HTX-, 4 GND_4, 5 HRX-, 6 HRX+, 7 GND_7
text: SLOT

## SAW_1575MHz
designator Z?, comment SAW 1575 MHz
1575 MHz SAW Filter
pins: 1 GND hidden to GND, 2 IN, 3 GND hidden to GND, 4 GND, 5 OUT1, 6 GND hidden to GND, 7 OUT2, 8 GND hidden to GND

## SBTC-2-10L+
designator Z?
50 ohm, 5-1000MHz, 0.3dB loss; Part Number: 33-0055
footprint SBTC-2-10L+ (Power Splitter from Mini-Circuits)
pins: 1 GND (in), 2 GND (in), 3 PORT 1, 4 PORT 2, 5 NC, 6 SUM PORT

## SCHOTTKY
designator D?
Silicon Schottky Diode
pins: A, K

## SCHOTTKY_P
designator D?
Silicon Schottky Diode Parallel
pins: A1, A2, K

## SCN-2-15+
designator Z?
Divider/Combiner, 2way 0deg, 1100-1450MHz, 1206
pins: 1 GND, 2 SUM, 3 GND, 4 PORT 2, 5 GND, 6 PORT 1

## SCREW
designator SCW?  (no BOM)
pins: 0

## SF
designator U?
SAW Filter; Value: SF400
pins: 1 In, 2 GND, 3 GND, 4 Out

## SF140
designator U?, comment 512496
Value: 512496
pins: 1 GND hidden to GND, 2 GND hidden to GND, 3 GND hidden to GND, 4 GND hidden to GND, 5 RF OUT, 6 GND, 7 GND hidden to GND, 8 GND hidden to GND, 9 GND hidden to GND, 10 GND hidden to GND, 11 RF IN, 12 GND

## SF140_1.5
designator *
pins: 1 GND hidden to GND, 2 GND hidden to GND, 3 GND hidden to GND, 4 RF OUT, 5 GND, 6 GND hidden to GND, 7 GND hidden to GND, 8 GND hidden to GND, 9 RF IN, 10 GND

## SF140_4
designator U?, comment 512496
Value: 512496
pins: 1 GND, 2 GND hidden to GND, 3 GND hidden to GND, 4 GND hidden to GND, 5 RF OUT, 6 GND, 7 GND hidden to GND, 8 GND hidden to GND, 9 GND hidden to GND, 10 RF IN, 11 GND hidden to GND, 12 GND hidden to GND

## SF140_16
designator Z?
SAW filter, 140 MHz, 16MHz BW
pins: 1 GND, 2 GND hidden to GND, 3 GND hidden to GND, 4 GND hidden to GND, 5 RF OUT, 6 GND, 7 GND hidden to GND, 8 GND hidden to GND, 9 GND hidden to GND, 10 RF IN

## SF5014
designator Z?, comment SF5014 1090MHz SAW
pins: 1 GND, 2 IN, 3 GND, 4 GND, 5 GND, 6 OUT, 7 GND, 8 GND

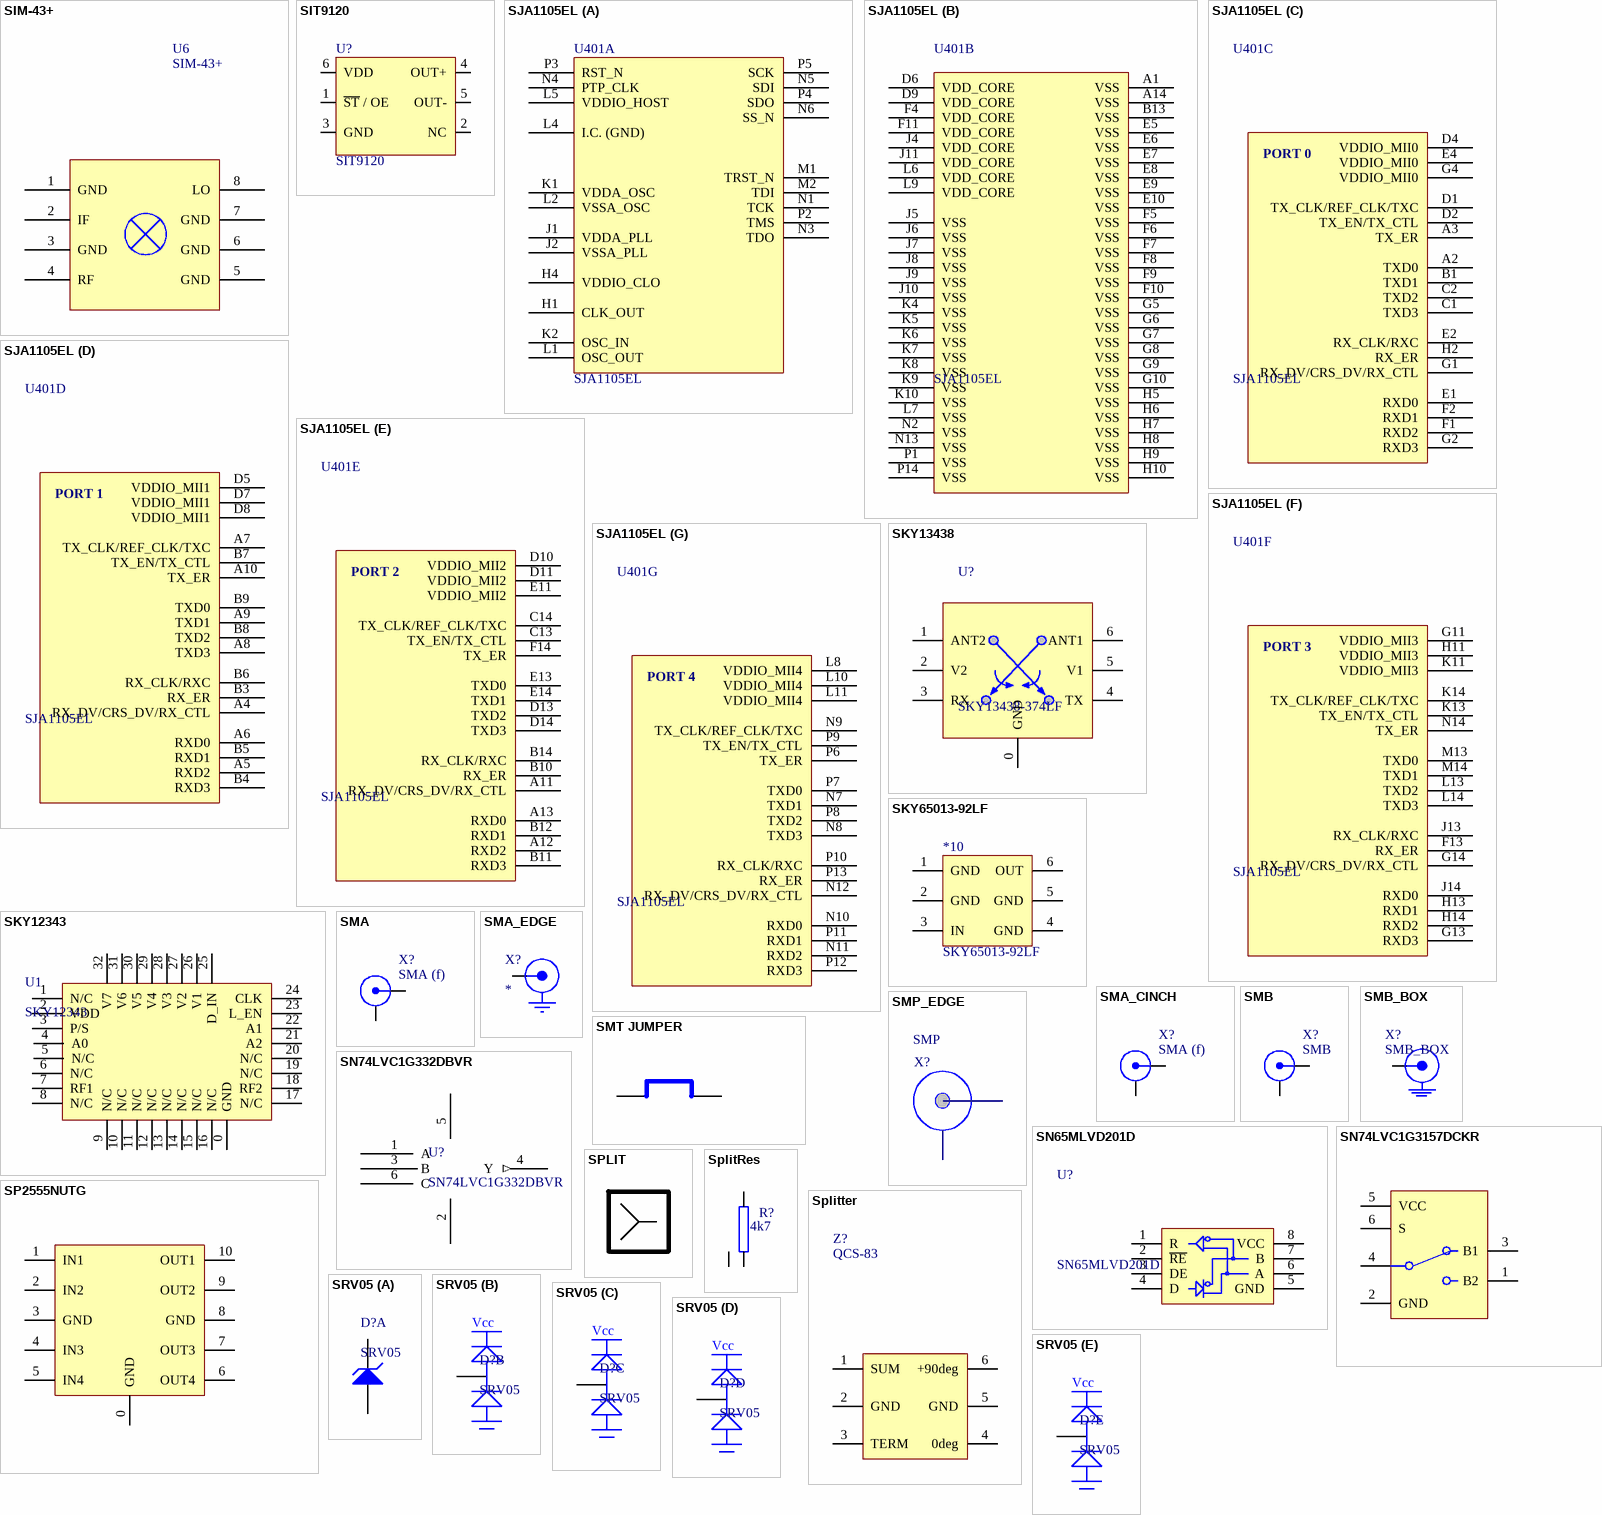
[diagram p24: symbols SIM-43+ to SRV05]

## SIM-43+
designator U6
Mixer, MCL, SMT, 1-4GHz, 17dBm, -7dB CL; Mfr: Mini-Circuits; Function: Mixer, Passive; IF: DC-1.5GHz; Loss: 7dB; Size: 5.1x4.8x2.2mm; Mfr P/N: SIM-43+; RF: 1-4GHz; LO: 17dBm
pins: 1 GND, 2 IF, 3 GND, 4 RF, 5 GND, 6 GND, 7 GND, 8 LO

## SIT9120
designator U?
200MHz High Performance Oscillator (3.3V LVDS, 50ppm)
pins: 1 ~{ST} / OE, 2 NC, 3 GND (power), 4 OUT+, 5 OUT-, 6 VDD (power)

## SJA1105EL
designator U401
Ethernet Switch, 5-port, Gigabit, Automotive
footprint SJA1105EL (BGA, 159-Leads, Body 12.00x12.00mmx1.50mm, Pitch 0.80mm)
part A pins: H1 CLK_OUT, H4 VDDIO_CLO, J1 VDDA_PLL, J2 VSSA_PLL, K1 VDDA_OSC, K2 OSC_IN, L1 OSC_OUT, L2 VSSA_OSC, L4 I.C. (GND), L5 VDDIO_HOST, M1 TRST_N, M2 TDI, N1 TCK, N3 TDO, N4 PTP_CLK, N5 SDI, N6 SS_N, P2 TMS, P3 RST_N, P4 SDO, P5 SCK
part B pins: A1 VSS, A14 VSS, B13 VSS, D6 VDD_CORE, D9 VDD_CORE, E5 VSS, E6 VSS, E7 VSS, E8 VSS, E9 VSS, E10 VSS, F4 VDD_CORE, F5 VSS, F6 VSS, F7 VSS, F8 VSS, F9 VSS, F10 VSS, F11 VDD_CORE, G5 VSS, G6 VSS, G7 VSS, G8 VSS, G9 VSS, G10 VSS, H5 VSS, H6 VSS, H7 VSS, H8 VSS, H9 VSS, H10 VSS, J4 VDD_CORE, J5 VSS, J6 VSS, J7 VSS, J8 VSS, J9 VSS, J10 VSS, J11 VDD_CORE, K4 VSS, K5 VSS, K6 VSS, K7 VSS, K8 VSS, K9 VSS, K10 VSS, L6 VDD_CORE, L7 VSS, L9 VDD_CORE, N2 VSS, N13 VSS, P1 VSS, P14 VSS
part C pins: A2 TXD0, A3 TX_ER, B1 TXD1, C1 TXD3, C2 TXD2, D1 TX_CLK/REF_CLK/TXC, D2 TX_EN/TX_CTL, D4 VDDIO_MII0, E1 RXD0, E2 RX_CLK/RXC, E4 VDDIO_MII0, F1 RXD2, F2 RXD1, G1 RX_DV/CRS_DV/RX_CTL, G2 RXD3, G4 VDDIO_MII0, H2 RX_ER
part D pins: A4 RX_DV/CRS_DV/RX_CTL, A5 RXD2, A6 RXD0, A7 TX_CLK/REF_CLK/TXC, A8 TXD3, A9 TXD1, A10 TX_ER, B3 RX_ER, B4 RXD3, B5 RXD1, B6 RX_CLK/RXC, B7 TX_EN/TX_CTL, B8 TXD2, B9 TXD0, D5 VDDIO_MII1, D7 VDDIO_MII1, D8 VDDIO_MII1
part E pins: A11 RX_DV/CRS_DV/RX_CTL, A12 RXD2, A13 RXD0, B10 RX_ER, B11 RXD3, B12 RXD1, B14 RX_CLK/RXC, C13 TX_EN/TX_CTL, C14 TX_CLK/REF_CLK/TXC, D10 VDDIO_MII2, D11 VDDIO_MII2, D13 TXD2, D14 TXD3, E11 VDDIO_MII2, E13 TXD0, E14 TXD1, F14 TX_ER
part F pins: F13 RX_ER, G11 VDDIO_MII3, G13 RXD3, G14 RX_DV/CRS_DV/RX_CTL, H11 VDDIO_MII3, H13 RXD1, H14 RXD2, J13 RX_CLK/RXC, J14 RXD0, K11 VDDIO_MII3, K13 TX_EN/TX_CTL, K14 TX_CLK/REF_CLK/TXC, L13 TXD2, L14 TXD3, M13 TXD0, M14 TXD1, N14 TX_ER
part G pins: L8 VDDIO_MII4, L10 VDDIO_MII4, L11 VDDIO_MII4, N7 TXD1, N8 TXD3, N9 TX_CLK/REF_CLK/TXC, N10 RXD0, N11 RXD2, N12 RX_DV/CRS_DV/RX_CTL, P6 TX_ER, P7 TXD0, P8 TXD2, P9 TX_EN/TX_CTL, P10 RX_CLK/RXC, P11 RXD1, P12 RXD3, P13 RX_ER
part C text: PORT 0
part D text: PORT 1
part E text: PORT 2
part F text: PORT 3
part G text: PORT 4

## SKY12343
designator U1
7 Bit Digital Attenuator, 1-4 GHz
pins: 0 GND, 1 N/C, 2 VDD, 3 P/S, 4 A0, 5 N/C, 6 N/C, 7 RF1, 8 N/C, 9 N/C, 10 N/C, 11 N/C, 12 N/C, 13 N/C, 14 N/C, 15 N/C, 16 N/C, 17 N/C, 18 RF2, 19 N/C, 20 N/C, 21 A2, 22 A1, 23 L_EN, 24 CLK, 25 D_IN, 26 V1, 27 V2, 28 V3, 29 V4, 30 V5, 31 V6, 32 V7

## SKY13438
designator U?, comment SKY13438-374LF
DPDT RF Switch
pins: 0 GND, 1 ANT2, 2 V2, 3 RX, 4 TX, 5 V1, 6 ANT1

## SKY65013-92LF
designator *10
pins: 1 GND, 2 GND, 3 IN, 4 GND, 5 GND, 6 OUT

## SMA
designator X?, comment SMA (f)
Top Mount SMA connector
pins: 1, 2, 3 hidden to GND, 4 hidden to GND, 5 hidden to GND

## SMA_CINCH
designator X?, comment SMA (f)
PCB End Launch, 26.5GHz Connector
pins: 0, 1

## SMA_EDGE
designator X?
Edge mount SMA connector
pins: 1

## SMB
designator X?
pins: 1, 2, 3 hidden to GND, 4 hidden to GND, 5 hidden to GND

## SMB_BOX
designator X?  (mechanical)
pins: 1

## SMP_EDGE
designator X?, comment SMP
Conn, SMP, edge mount, Plug, Molex 73415-3591
pins: 1 2, 2 GND

## SMT JUMPER
designator Z?
pins: 1, 2

## SN65MLVD201D
designator U?
Half duplex, multipoint LVDS line driver and receiver; Value: SN65MLVD201D
footprint SOIC-8 (Standard SO-8 package)
pins: 1 R, 2 ~{RE}, 3 DE, 4 D, 5 GND, 6 A, 7 B, 8 VCC

## SN74LVC1G332DBVR
designator U?
pins: 1 A, 2 GND, 3 B, 4 Y (out), 5 VCC, 6 C

## SN74LVC1G3157DCKR
designator U?
pins: 1 B2, 2 GND, 3 B1, 4 IN, 5 VCC, 6 S

## SP2555NUTG
designator U?
Transorb x4, 1000W, Vwm=3V3, Bipolar, 3mm x 2mm
footprint SP2555NUTG (Transorb x4, 1000W, Vwm=3V3, Bipolar, 3mm x 2mm)
pins: 0 GND, 1 IN1, 2 IN2, 3 GND, 4 IN3, 5 IN4, 6 OUT4, 7 OUT3, 8 GND, 9 OUT2, 10 OUT1

## SPLIT
designator Z?

## SplitRes
designator R?, comment 4k7
Value: 4k7
footprint SplitRes0603
footprint SPLITRES
pins: 1, 2, 3

## Splitter
designator Z?, comment QCS-83
Power Splitter/Combiner
pins: 1 SUM, 2 GND, 3 TERM, 4 0deg, 5 GND, 6 +90deg

## SRV05
designator D?
Diode Array, 6V
part A pins: 2 GND, 5 VCC
part B pins: 1 I/O 1
part C pins: 3 I/O 2
part D pins: 4 I/O 3
part E pins: 6 I/O 4
part B text: Vcc
part C text: Vcc
part D text: Vcc
part E text: Vcc

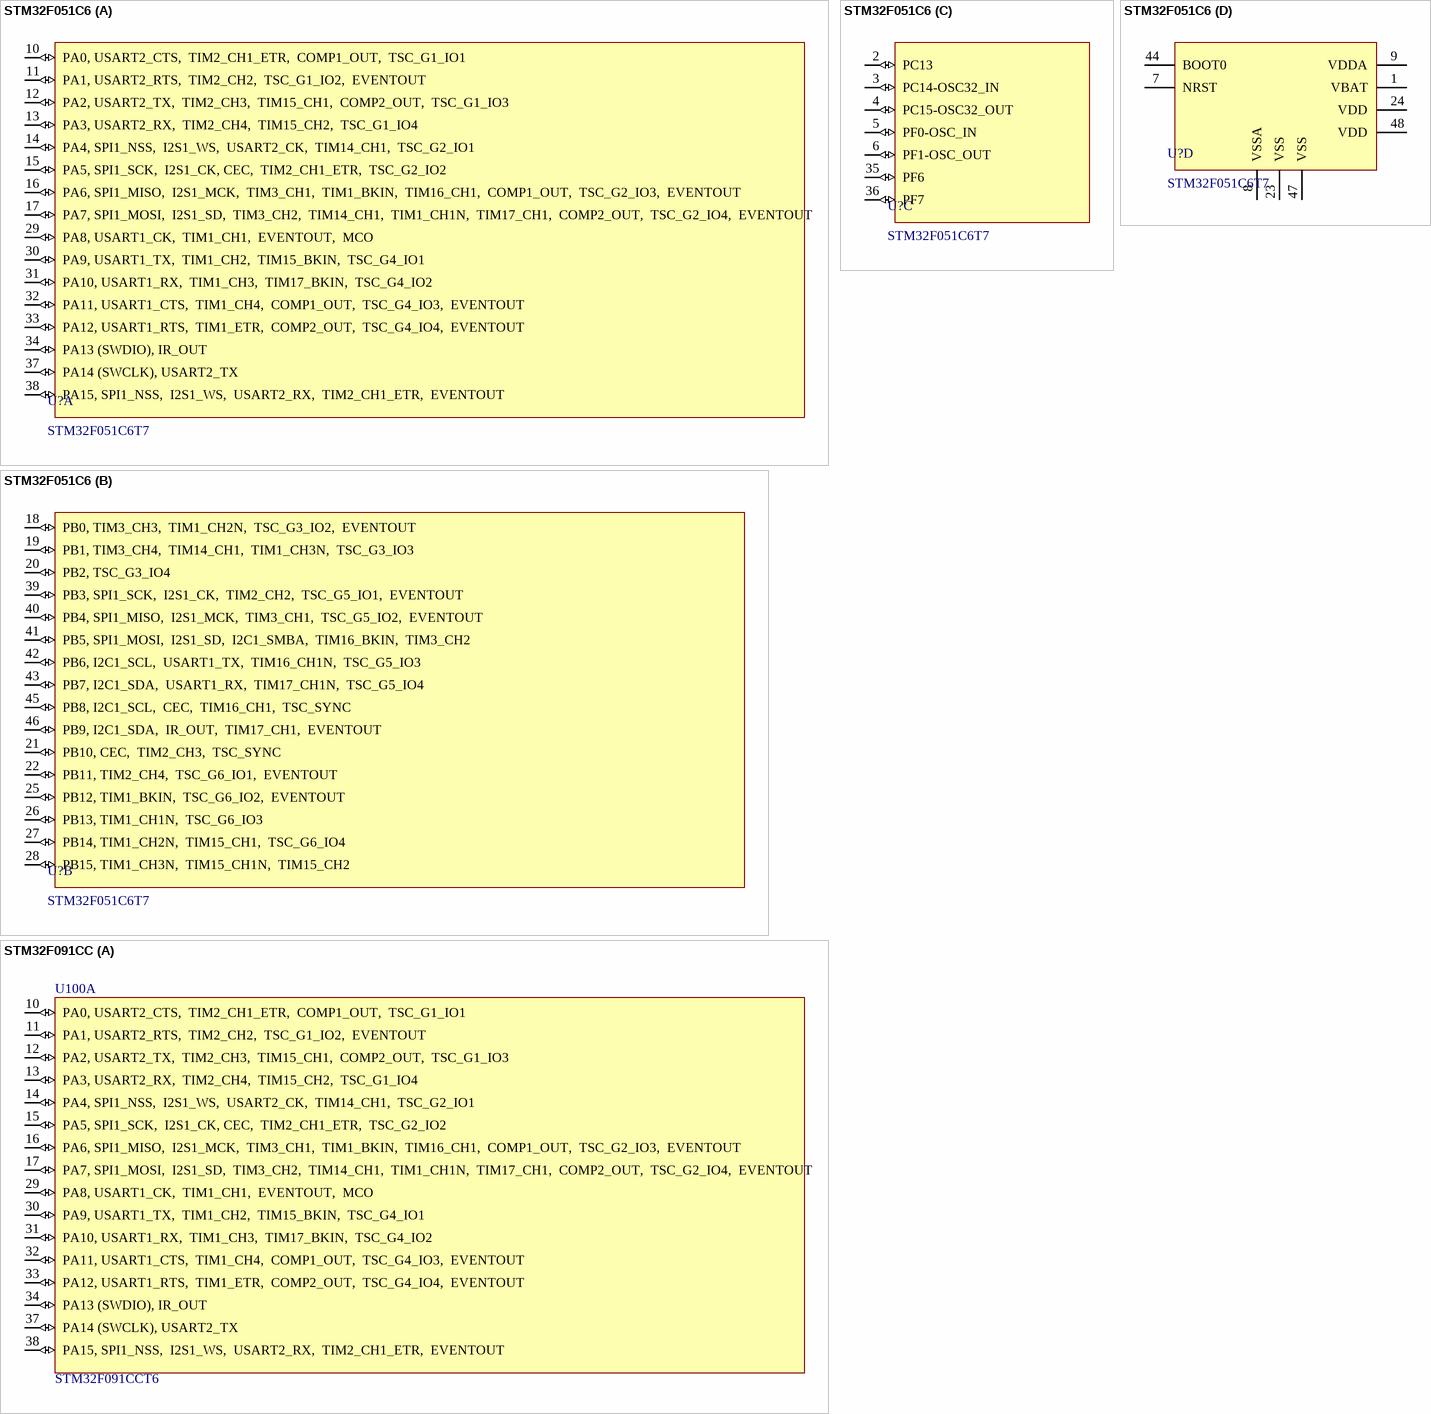
[diagram p25: symbols STM32F051C6 to STM32F091CC]

## STM32F051C6
designator U?, comment STM32F051C6T7
Microcontroller, ARM, 32b, 48MHz, 32k Flash, 3V, LQFP48
part A pins: 10 PA0, USART2_CTS,  TIM2_CH1_ETR,  COMP1_OUT,  TSC_G1_IO1 (io), 11 PA1, USART2_RTS,  TIM2_CH2,  TSC_G1_IO2,  EVENTOUT (io), 12 PA2, USART2_TX,  TIM2_CH3,  TIM15_CH1,  COMP2_OUT,  TSC_G1_IO3 (io), 13 PA3, USART2_RX,  TIM2_CH4,  TIM15_CH2,  TSC_G1_IO4 (io), 14 PA4, SPI1_NSS,  I2S1_WS,  USART2_CK,  TIM14_CH1,  TSC_G2_IO1 (io), 15 PA5, SPI1_SCK,  I2S1_CK, CEC,  TIM2_CH1_ETR,  TSC_G2_IO2 (io), 16 PA6, SPI1_MISO,  I2S1_MCK,  TIM3_CH1,  TIM1_BKIN,  TIM16_CH1,  COMP1_OUT,  TSC_G2_IO3,  EVENTOUT (io), 17 PA7, SPI1_MOSI,  I2S1_SD,  TIM3_CH2,  TIM14_CH1,  TIM1_CH1N,  TIM17_CH1,  COMP2_OUT,  TSC_G2_IO4,  EVENTOUT (io), 29 PA8, USART1_CK,  TIM1_CH1,  EVENTOUT,  MCO (io), 30 PA9, USART1_TX,  TIM1_CH2,  TIM15_BKIN,  TSC_G4_IO1 (io), 31 PA10, USART1_RX,  TIM1_CH3,  TIM17_BKIN,  TSC_G4_IO2 (io), 32 PA11, USART1_CTS,  TIM1_CH4,  COMP1_OUT,  TSC_G4_IO3,  EVENTOUT (io), 33 PA12, USART1_RTS,  TIM1_ETR,  COMP2_OUT,  TSC_G4_IO4,  EVENTOUT (io), 34 PA13 (SWDIO), IR_OUT (io), 37 PA14 (SWCLK), USART2_TX (io), 38 PA15, SPI1_NSS,  I2S1_WS,  USART2_RX,  TIM2_CH1_ETR,  EVENTOUT (io)
part B pins: 18 PB0, TIM3_CH3,  TIM1_CH2N,  TSC_G3_IO2,  EVENTOUT (io), 19 PB1, TIM3_CH4,  TIM14_CH1,  TIM1_CH3N,  TSC_G3_IO3 (io), 20 PB2, TSC_G3_IO4 (io), 21 PB10, CEC,  TIM2_CH3,  TSC_SYNC (io), 22 PB11, TIM2_CH4,  TSC_G6_IO1,  EVENTOUT (io), 25 PB12, TIM1_BKIN,  TSC_G6_IO2,  EVENTOUT (io), 26 PB13, TIM1_CH1N,  TSC_G6_IO3 (io), 27 PB14, TIM1_CH2N,  TIM15_CH1,  TSC_G6_IO4 (io), 28 PB15, TIM1_CH3N,  TIM15_CH1N,  TIM15_CH2 (io), 39 PB3, SPI1_SCK,  I2S1_CK,  TIM2_CH2,  TSC_G5_IO1,  EVENTOUT (io), 40 PB4, SPI1_MISO,  I2S1_MCK,  TIM3_CH1,  TSC_G5_IO2,  EVENTOUT (io), 41 PB5, SPI1_MOSI,  I2S1_SD,  I2C1_SMBA,  TIM16_BKIN,  TIM3_CH2 (io), 42 PB6, I2C1_SCL,  USART1_TX,  TIM16_CH1N,  TSC_G5_IO3 (io), 43 PB7, I2C1_SDA,  USART1_RX,  TIM17_CH1N,  TSC_G5_IO4 (io), 45 PB8, I2C1_SCL,  CEC,  TIM16_CH1,  TSC_SYNC (io), 46 PB9, I2C1_SDA,  IR_OUT,  TIM17_CH1,  EVENTOUT (io)
part C pins: 2 PC13 (io), 3 PC14-OSC32_IN (io), 4 PC15-OSC32_OUT (io), 5 PF0-OSC_IN (io), 6 PF1-OSC_OUT (io), 35 PF6 (io), 36 PF7 (io)
part D pins: 1 VBAT, 7 NRST, 8 VSSA, 9 VDDA, 23 VSS, 24 VDD, 44 BOOT0, 47 VSS, 48 VDD

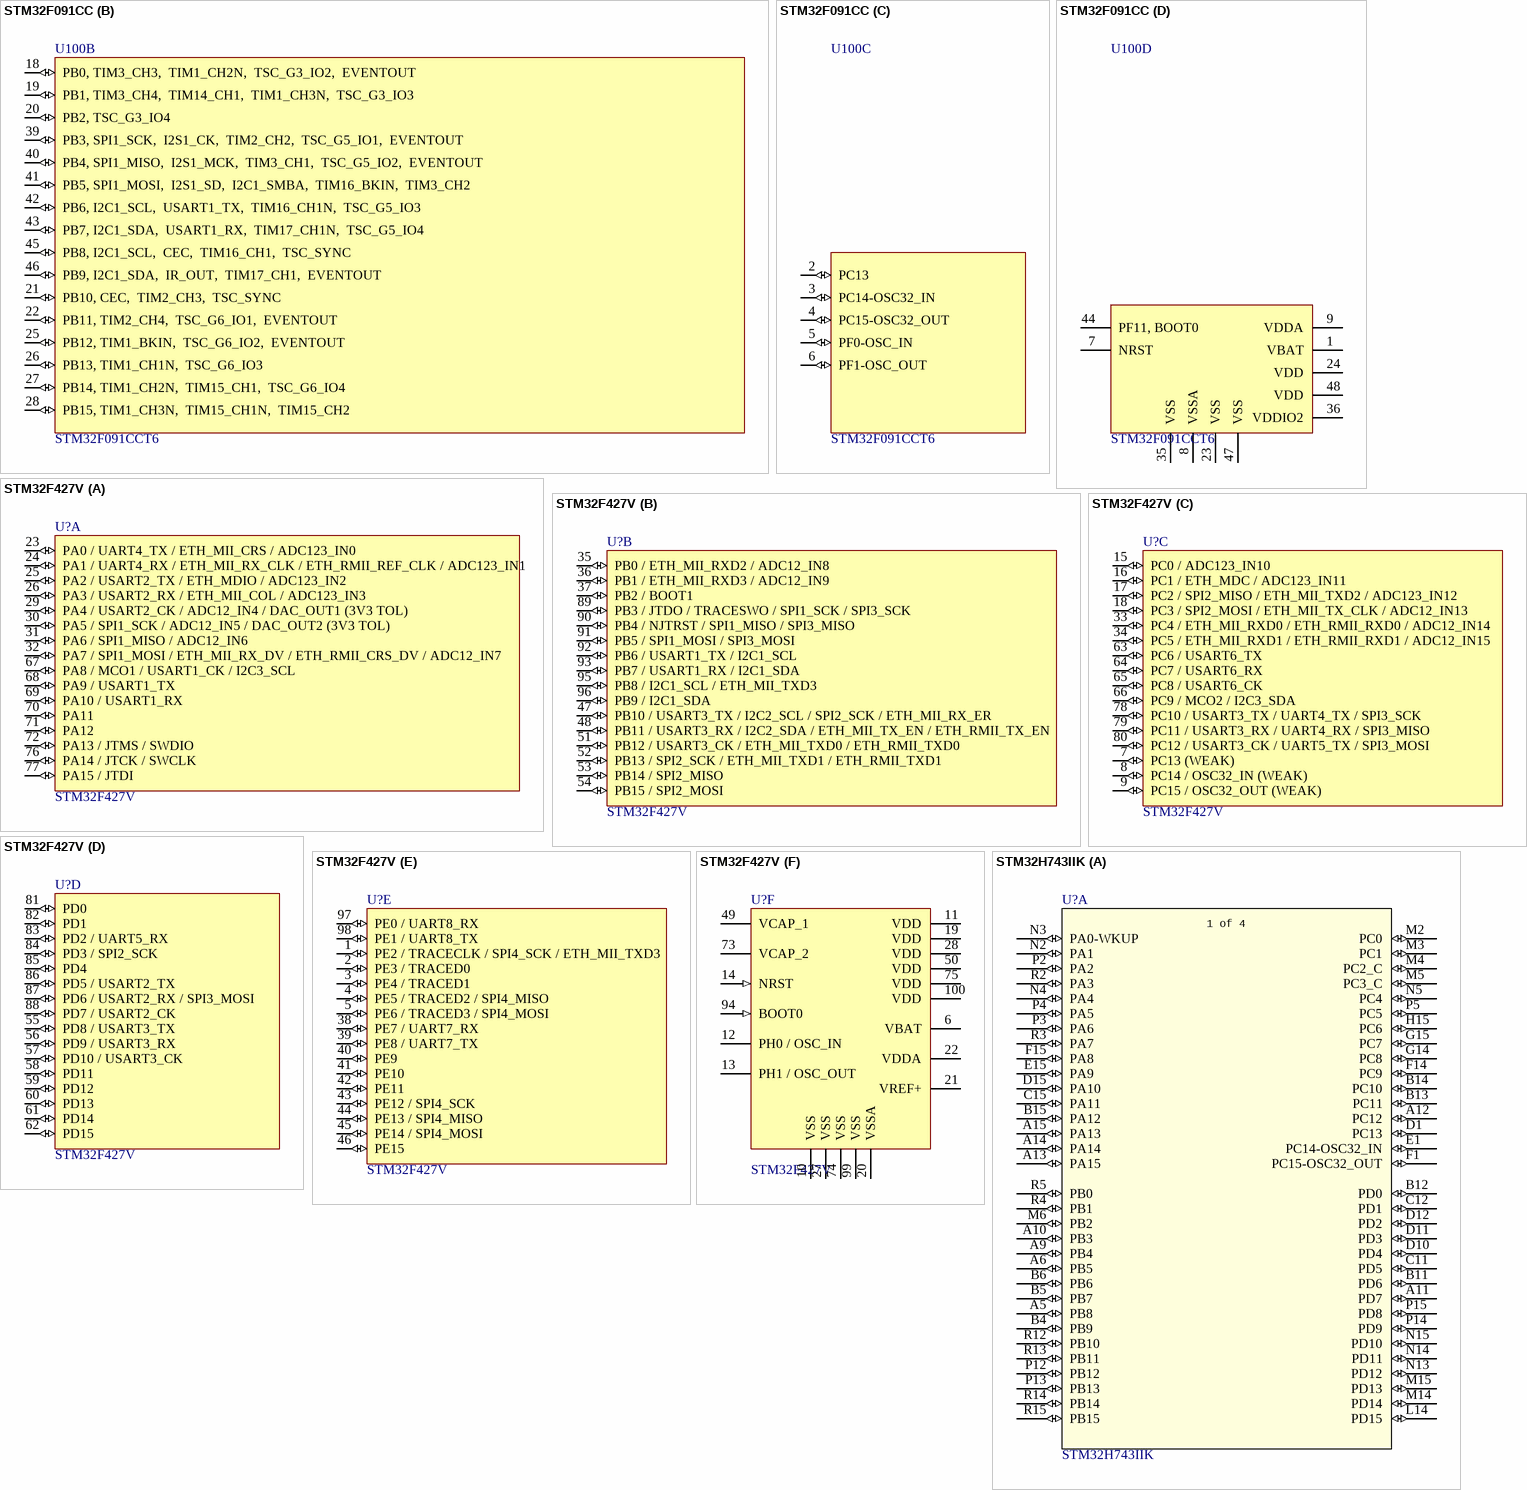
[diagram p26: symbols STM32F091CC to STM32H743IIK]

## STM32F091CC
designator U100, comment STM32F091CCT6
Microcontroller, ARM, 32b, 48MHz, 256k Flash, 2V-3V6, LQFP48
footprint LQFP48
part A pins: 10 PA0, USART2_CTS,  TIM2_CH1_ETR,  COMP1_OUT,  TSC_G1_IO1 (io), 11 PA1, USART2_RTS,  TIM2_CH2,  TSC_G1_IO2,  EVENTOUT (io), 12 PA2, USART2_TX,  TIM2_CH3,  TIM15_CH1,  COMP2_OUT,  TSC_G1_IO3 (io), 13 PA3, USART2_RX,  TIM2_CH4,  TIM15_CH2,  TSC_G1_IO4 (io), 14 PA4, SPI1_NSS,  I2S1_WS,  USART2_CK,  TIM14_CH1,  TSC_G2_IO1 (io), 15 PA5, SPI1_SCK,  I2S1_CK, CEC,  TIM2_CH1_ETR,  TSC_G2_IO2 (io), 16 PA6, SPI1_MISO,  I2S1_MCK,  TIM3_CH1,  TIM1_BKIN,  TIM16_CH1,  COMP1_OUT,  TSC_G2_IO3,  EVENTOUT (io), 17 PA7, SPI1_MOSI,  I2S1_SD,  TIM3_CH2,  TIM14_CH1,  TIM1_CH1N,  TIM17_CH1,  COMP2_OUT,  TSC_G2_IO4,  EVENTOUT (io), 29 PA8, USART1_CK,  TIM1_CH1,  EVENTOUT,  MCO (io), 30 PA9, USART1_TX,  TIM1_CH2,  TIM15_BKIN,  TSC_G4_IO1 (io), 31 PA10, USART1_RX,  TIM1_CH3,  TIM17_BKIN,  TSC_G4_IO2 (io), 32 PA11, USART1_CTS,  TIM1_CH4,  COMP1_OUT,  TSC_G4_IO3,  EVENTOUT (io), 33 PA12, USART1_RTS,  TIM1_ETR,  COMP2_OUT,  TSC_G4_IO4,  EVENTOUT (io), 34 PA13 (SWDIO), IR_OUT (io), 37 PA14 (SWCLK), USART2_TX (io), 38 PA15, SPI1_NSS,  I2S1_WS,  USART2_RX,  TIM2_CH1_ETR,  EVENTOUT (io)
part B pins: 18 PB0, TIM3_CH3,  TIM1_CH2N,  TSC_G3_IO2,  EVENTOUT (io), 19 PB1, TIM3_CH4,  TIM14_CH1,  TIM1_CH3N,  TSC_G3_IO3 (io), 20 PB2, TSC_G3_IO4 (io), 21 PB10, CEC,  TIM2_CH3,  TSC_SYNC (io), 22 PB11, TIM2_CH4,  TSC_G6_IO1,  EVENTOUT (io), 25 PB12, TIM1_BKIN,  TSC_G6_IO2,  EVENTOUT (io), 26 PB13, TIM1_CH1N,  TSC_G6_IO3 (io), 27 PB14, TIM1_CH2N,  TIM15_CH1,  TSC_G6_IO4 (io), 28 PB15, TIM1_CH3N,  TIM15_CH1N,  TIM15_CH2 (io), 39 PB3, SPI1_SCK,  I2S1_CK,  TIM2_CH2,  TSC_G5_IO1,  EVENTOUT (io), 40 PB4, SPI1_MISO,  I2S1_MCK,  TIM3_CH1,  TSC_G5_IO2,  EVENTOUT (io), 41 PB5, SPI1_MOSI,  I2S1_SD,  I2C1_SMBA,  TIM16_BKIN,  TIM3_CH2 (io), 42 PB6, I2C1_SCL,  USART1_TX,  TIM16_CH1N,  TSC_G5_IO3 (io), 43 PB7, I2C1_SDA,  USART1_RX,  TIM17_CH1N,  TSC_G5_IO4 (io), 45 PB8, I2C1_SCL,  CEC,  TIM16_CH1,  TSC_SYNC (io), 46 PB9, I2C1_SDA,  IR_OUT,  TIM17_CH1,  EVENTOUT (io)
part C pins: 2 PC13 (io), 3 PC14-OSC32_IN (io), 4 PC15-OSC32_OUT (io), 5 PF0-OSC_IN (io), 6 PF1-OSC_OUT (io)
part D pins: 1 VBAT, 7 NRST, 8 VSSA, 9 VDDA, 23 VSS, 24 VDD, 35 VSS, 36 VDDIO2, 44 PF11, BOOT0, 47 VSS, 48 VDD

## STM32F427V
designator U?
STM32F4 Cortex-M4F MCU (100-pin)
part A pins: 23 PA0 / UART4_TX / ETH_MII_CRS / ADC123_IN0 (io), 24 PA1 / UART4_RX / ETH_MII_RX_CLK / ETH_RMII_REF_CLK / ADC123_IN1 (io), 25 PA2 / USART2_TX / ETH_MDIO / ADC123_IN2 (io), 26 PA3 / USART2_RX / ETH_MII_COL / ADC123_IN3 (io), 29 PA4 / USART2_CK / ADC12_IN4 / DAC_OUT1 (3V3 TOL) (io), 30 PA5 / SPI1_SCK / ADC12_IN5 / DAC_OUT2 (3V3 TOL) (io), 31 PA6 / SPI1_MISO / ADC12_IN6 (io), 32 PA7 / SPI1_MOSI / ETH_MII_RX_DV / ETH_RMII_CRS_DV / ADC12_IN7 (io), 67 PA8 / MCO1 / USART1_CK / I2C3_SCL (io), 68 PA9 / USART1_TX (io), 69 PA10 / USART1_RX (io), 70 PA11 (io), 71 PA12 (io), 72 PA13 / JTMS / SWDIO (io), 76 PA14 / JTCK / SWCLK (io), 77 PA15 / JTDI (io)
part B pins: 35 PB0 / ETH_MII_RXD2 / ADC12_IN8 (io), 36 PB1 / ETH_MII_RXD3 / ADC12_IN9 (io), 37 PB2 / BOOT1 (io), 47 PB10 / USART3_TX / I2C2_SCL / SPI2_SCK / ETH_MII_RX_ER (io), 48 PB11 / USART3_RX / I2C2_SDA / ETH_MII_TX_EN / ETH_RMII_TX_EN (io), 51 PB12 / USART3_CK / ETH_MII_TXD0 / ETH_RMII_TXD0 (io), 52 PB13 / SPI2_SCK / ETH_MII_TXD1 / ETH_RMII_TXD1 (io), 53 PB14 / SPI2_MISO (io), 54 PB15 / SPI2_MOSI (io), 89 PB3 / JTDO / TRACESWO / SPI1_SCK / SPI3_SCK (io), 90 PB4 / NJTRST / SPI1_MISO / SPI3_MISO (io), 91 PB5 / SPI1_MOSI / SPI3_MOSI (io), 92 PB6 / USART1_TX / I2C1_SCL (io), 93 PB7 / USART1_RX / I2C1_SDA (io), 95 PB8 / I2C1_SCL / ETH_MII_TXD3 (io), 96 PB9 / I2C1_SDA (io)
part C pins: 7 PC13 (WEAK) (io), 8 PC14 / OSC32_IN (WEAK) (io), 9 PC15 / OSC32_OUT (WEAK) (io), 15 PC0 / ADC123_IN10 (io), 16 PC1 / ETH_MDC / ADC123_IN11 (io), 17 PC2 / SPI2_MISO / ETH_MII_TXD2 / ADC123_IN12 (io), 18 PC3 / SPI2_MOSI / ETH_MII_TX_CLK / ADC12_IN13 (io), 33 PC4 / ETH_MII_RXD0 / ETH_RMII_RXD0 / ADC12_IN14 (io), 34 PC5 / ETH_MII_RXD1 / ETH_RMII_RXD1 / ADC12_IN15 (io), 63 PC6 / USART6_TX (io), 64 PC7 / USART6_RX (io), 65 PC8 / USART6_CK (io), 66 PC9 / MCO2 / I2C3_SDA (io), 78 PC10 / USART3_TX / UART4_TX / SPI3_SCK (io), 79 PC11 / USART3_RX / UART4_RX / SPI3_MISO (io), 80 PC12 / USART3_CK / UART5_TX / SPI3_MOSI (io)
part D pins: 55 PD8 / USART3_TX (io), 56 PD9 / USART3_RX (io), 57 PD10 / USART3_CK (io), 58 PD11 (io), 59 PD12 (io), 60 PD13 (io), 61 PD14 (io), 62 PD15 (io), 81 PD0 (io), 82 PD1 (io), 83 PD2 / UART5_RX (io), 84 PD3 / SPI2_SCK (io), 85 PD4 (io), 86 PD5 / USART2_TX (io), 87 PD6 / USART2_RX / SPI3_MOSI (io), 88 PD7 / USART2_CK (io)
part E pins: 1 PE2 / TRACECLK / SPI4_SCK / ETH_MII_TXD3 (io), 2 PE3 / TRACED0 (io), 3 PE4 / TRACED1 (io), 4 PE5 / TRACED2 / SPI4_MISO (io), 5 PE6 / TRACED3 / SPI4_MOSI (io), 38 PE7 / UART7_RX (io), 39 PE8 / UART7_TX (io), 40 PE9 (io), 41 PE10 (io), 42 PE11 (io), 43 PE12 / SPI4_SCK (io), 44 PE13 / SPI4_MISO (io), 45 PE14 / SPI4_MOSI (io), 46 PE15 (io), 97 PE0 / UART8_RX (io), 98 PE1 / UART8_TX (io)
part F pins: 6 VBAT (power), 10 VSS (power), 11 VDD (power), 12 PH0 / OSC_IN, 13 PH1 / OSC_OUT, 14 NRST (in), 19 VDD (power), 20 VSSA (power), 21 VREF+ (power), 22 VDDA (power), 27 VSS (power), 28 VDD (power), 49 VCAP_1, 50 VDD (power), 73 VCAP_2, 74 VSS (power), 75 VDD (power), 94 BOOT0 (in), 99 VSS (power), 100 VDD (power)

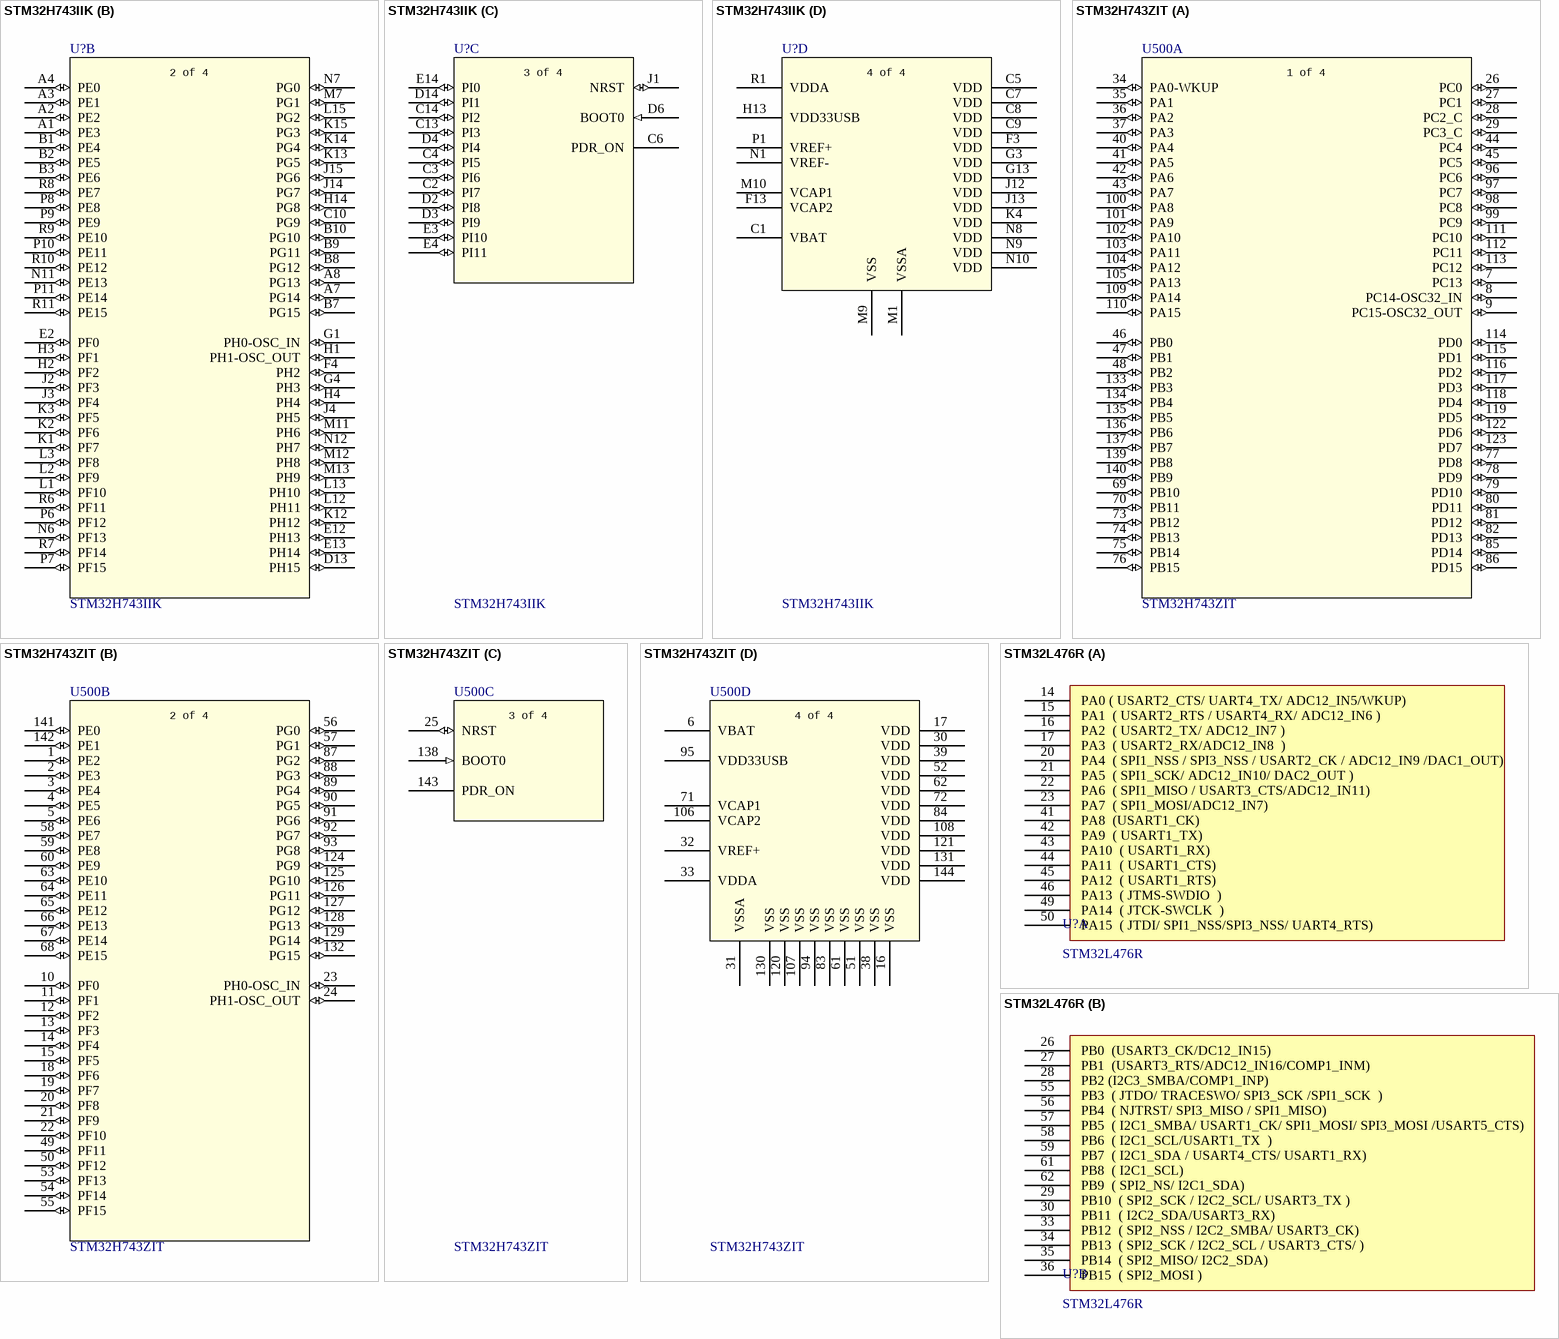
[diagram p27: symbols STM32H743IIK to STM32L476R]

## STM32H743IIK
designator U?
Microcontroller, ARM, 32b, 400MHz, 2M Flash, 1.6-3.6V, 176UBGA; Part Number: 51-32H743-01
footprint UFBGA 176+25 (BGA, 201-Leads, Body 10.00x10.00mmx0.60mm, Pitch 0.65mm)
part A pins: A5 PB8 (io), A6 PB5 (io), A9 PB4 (io), A10 PB3 (io), A11 PD7 (io), A12 PC12 (io), A13 PA15 (io), A14 PA14 (io), A15 PA13 (io), B4 PB9 (io), B5 PB7 (io), B6 PB6 (io), B11 PD6 (io), B12 PD0 (io), B13 PC11 (io), B14 PC10 (io), B15 PA12 (io), C11 PD5 (io), C12 PD1 (io), C15 PA11 (io), D1 PC13 (io), D10 PD4 (io), D11 PD3 (io), D12 PD2 (io), D15 PA10 (io), E1 PC14-OSC32_IN (io), E15 PA9 (io), F1 PC15-OSC32_OUT (io), F14 PC9 (io), F15 PA8 (io), G14 PC8 (io), G15 PC7 (io), H15 PC6 (io), L14 PD15 (io), M2 PC0 (io), M3 PC1 (io), M4 PC2_C (io), M5 PC3_C (io), M6 PB2 (io), M14 PD14 (io), M15 PD13 (io), N2 PA1 (io), N3 PA0-WKUP (io), N4 PA4 (io), N5 PC4 (io), N13 PD12 (io), N14 PD11 (io), N15 PD10 (io), P2 PA2 (io), P3 PA6 (io), P4 PA5 (io), P5 PC5 (io), P12 PB12 (io), P13 PB13 (io), P14 PD9 (io), P15 PD8 (io), R2 PA3 (io), R3 PA7 (io), R4 PB1 (io), R5 PB0 (io), R12 PB10 (io), R13 PB11 (io), R14 PB14 (io), R15 PB15 (io)
part B pins: A1 PE3 (io), A2 PE2 (io), A3 PE1 (io), A4 PE0 (io), A7 PG14 (io), A8 PG13 (io), B1 PE4 (io), B2 PE5 (io), B3 PE6 (io), B7 PG15 (io), B8 PG12 (io), B9 PG11 (io), B10 PG10 (io), C10 PG9 (io), D13 PH15 (io), E2 PF0 (io), E12 PH13 (io), E13 PH14 (io), F4 PH2 (io), G1 PH0-OSC_IN (io), G4 PH3 (io), H1 PH1-OSC_OUT (io), H2 PF2 (io), H3 PF1 (io), H4 PH4 (io), H14 PG8 (io), J2 PF3 (io), J3 PF4 (io), J4 PH5 (io), J14 PG7 (io), J15 PG6 (io), K1 PF7 (io), K2 PF6 (io), K3 PF5 (io), K12 PH12 (io), K13 PG5 (io), K14 PG4 (io), K15 PG3 (io), L1 PF10 (io), L2 PF9 (io), L3 PF8 (io), L12 PH11 (io), L13 PH10 (io), L15 PG2 (io), M7 PG1 (io), M11 PH6 (io), M12 PH8 (io), M13 PH9 (io), N6 PF13 (io), N7 PG0 (io), N11 PE13 (io), N12 PH7 (io), P6 PF12 (io), P7 PF15 (io), P8 PE8 (io), P9 PE9 (io), P10 PE11 (io), P11 PE14 (io), R6 PF11 (io), R7 PF14 (io), R8 PE7 (io), R9 PE10 (io), R10 PE12 (io), R11 PE15 (io)
part C pins: C2 PI7 (io), C3 PI6 (io), C4 PI5 (io), C6 PDR_ON, C13 PI3 (io), C14 PI2 (io), D2 PI8 (io), D3 PI9 (io), D4 PI4 (io), D6 BOOT0 (in), D14 PI1 (io), E3 PI10 (io), E4 PI11 (io), E14 PI0 (io), J1 NRST (io)
part D pins: C1 VBAT (power), C5 VDD (power), C7 VDD (power), C8 VDD (power), C9 VDD (power), D5 VSS (power) hidden to GND, D7 VSS (power) hidden to GND, D8 VSS (power) hidden to GND, D9 VSS (power) hidden to GND, F2 VSS (power) hidden to GND, F3 VDD (power), F6 VSS (power) hidden to GND, F7 VSS (power) hidden to GND, F8 VSS (power) hidden to GND, F9 VSS (power) hidden to GND, F10 VSS (power) hidden to GND, F12 VSS (power) hidden to GND, F13 VCAP2 (power), G2 VSS (power) hidden to GND, G3 VDD (power), G6 VSS (power) hidden to GND, G7 VSS (power) hidden to GND, G8 VSS (power) hidden to GND, G9 VSS (power) hidden to GND, G10 VSS (power) hidden to GND, G12 VSS (power) hidden to GND, G13 VDD (power), H6 VSS (power) hidden to GND, H7 VSS (power) hidden to GND, H8 VSS (power) hidden to GND, H9 VSS (power) hidden to GND, H10 VSS (power) hidden to GND, H12 VSS (power) hidden to GND, H13 VDD33USB (power), J6 VSS (power) hidden to GND, J7 VSS (power) hidden to GND, J8 VSS (power) hidden to GND, J9 VSS (power) hidden to GND, J10 VSS (power) hidden to GND, J12 VDD (power), J13 VDD (power), K4 VDD (power), K6 VSS (power) hidden to GND, K7 VSS (power) hidden to GND, K8 VSS (power) hidden to GND, K9 VSS (power) hidden to GND, K10 VSS (power) hidden to GND, L4 VSS (power) hidden to GND, M1 VSSA (power), M8 VSS (power) hidden to GND, M9 VSS (power), M10 VCAP1 (power), N1 VREF- (power), N8 VDD (power), N9 VDD (power), N10 VDD (power), P1 VREF+ (power), R1 VDDA (power)
part A text: 1 of 4
part B text: 2 of 4
part C text: 3 of 4
part D text: 4 of 4